# Altium schematic symbol library Sch_Lib.SchLib: 596 symbols (part 3 of 7)
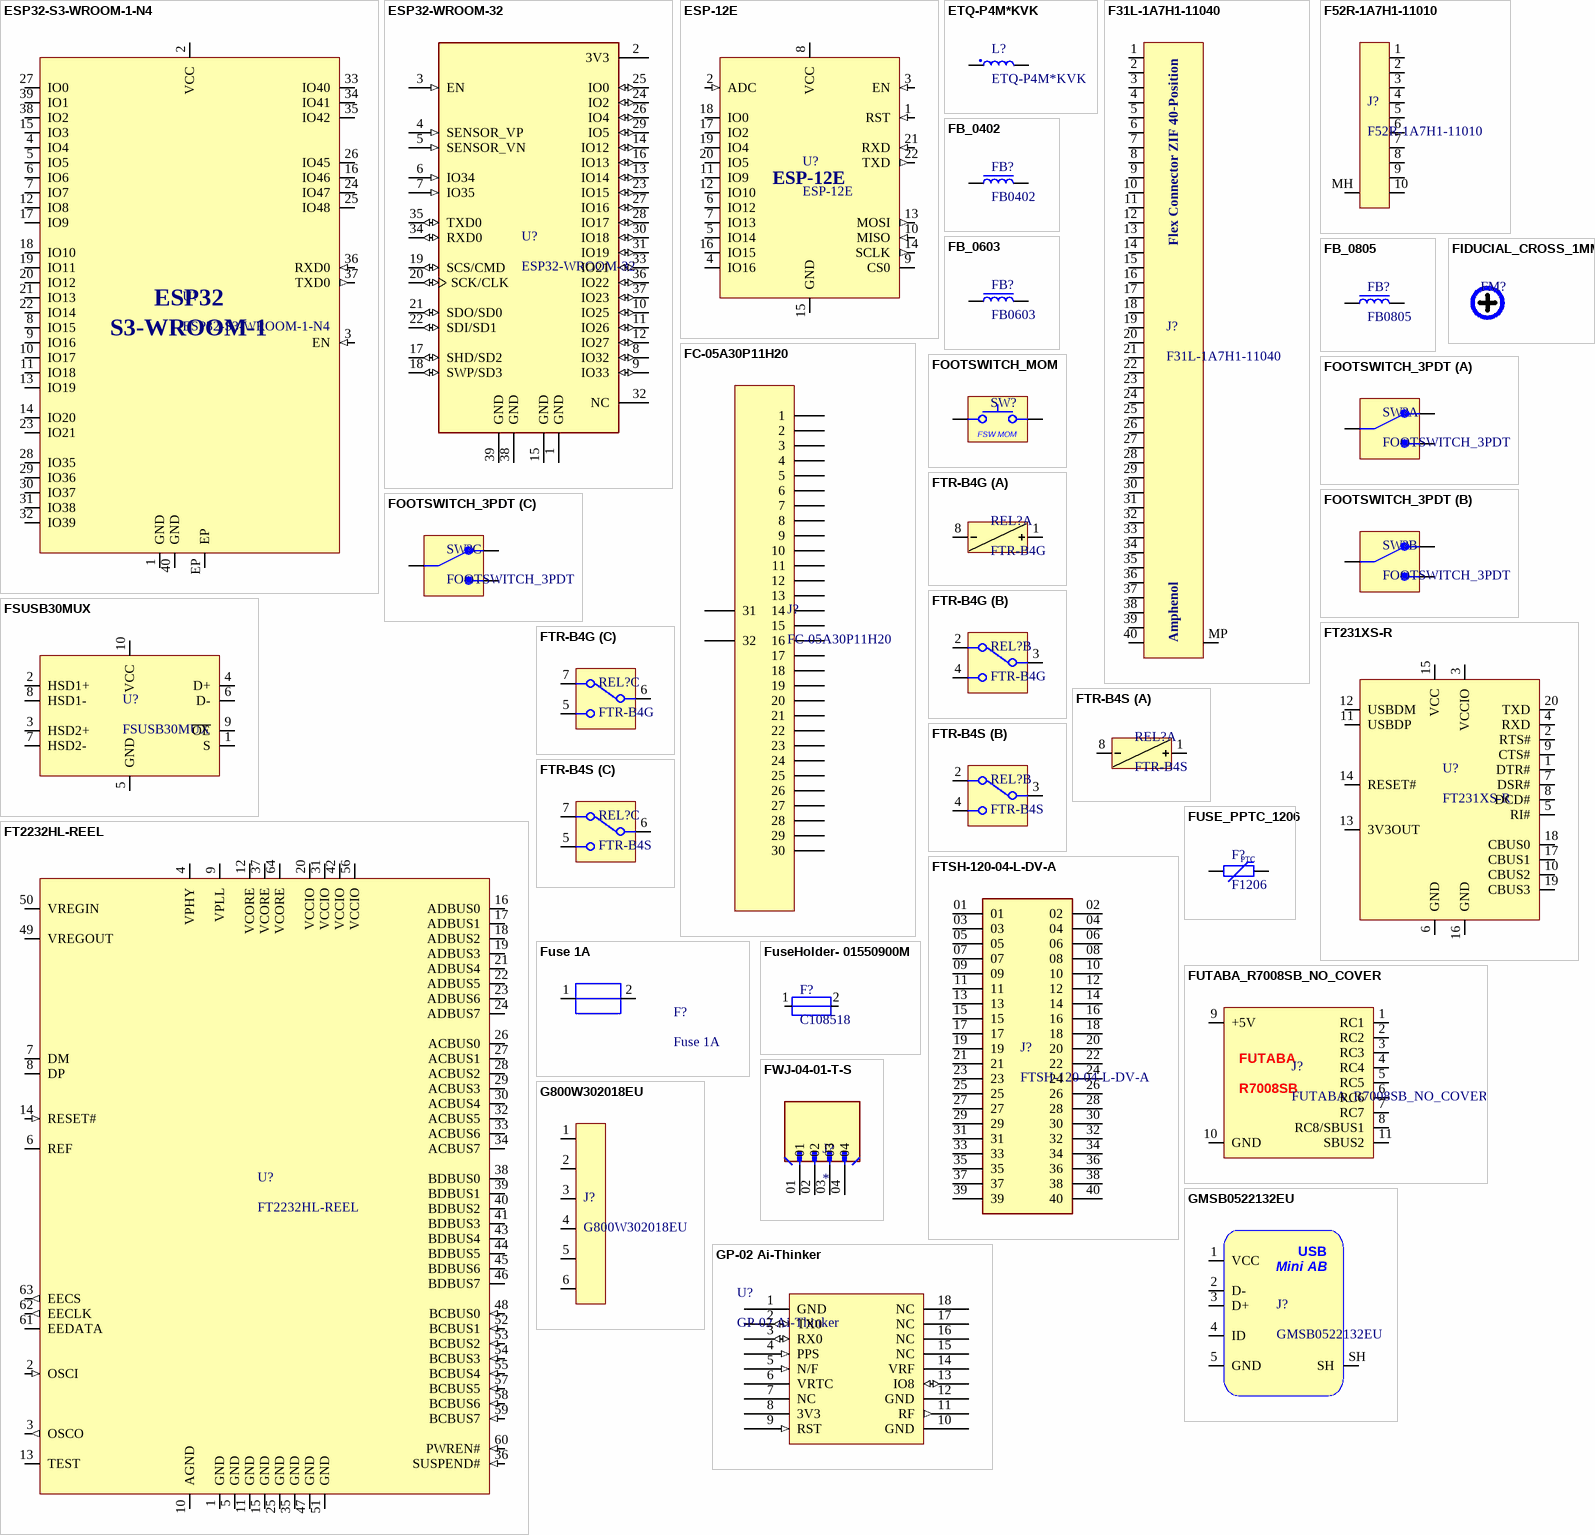
[diagram p39: symbols ESP32-S3-WROOM-1-N4 to GP-02 Ai-Thinker]

## ETQ-P4M*KVK
designator L?
Inductor Power SMD PCC-M0840M-LP Series; Manufacturer: Panasonic; Manufacturer Part Number: ETQ-P4M*KVK; Distributor Link: *; LCSC: *
footprint IND_1008
footprint ETQP4M-KVK
pins: 1, 2

## F31L-1A7H1-11040
designator J?
Flex Connector, 0.50mm Pitch, Height 2.55mm, Right angle, Flip type, ZIF, 40 position; Manufacturer: Amphenol; Manufacturer Part Number: F31L-1A7H1-11040; Distributor Link: https://www.mouser.de/ProductDetail/Amphenol-Aorora/F31L-1A7H1-11040?qs=xZ%2FP%252Ba9zWqYDodVHBk05qA%3D%3D
footprint F31L-1A7H1-11040
pins: 1, 2, 3, 4, 5, 6, 7, 8, 9, 10, 11, 12, 13, 14, 15, 16, 17, 18, 19, 20, 21, 22, 23, 24, 25, 26, 27, 28, 29, 30, 31, 32, 33, 34, 35, 36, 37, 38, 39, 40, MP
text: Flex Connector ZIF 40-Position

## F52R-1A7H1-11010
designator J?
FFC/FPC Connector 1.00mm Pitch Bottom Contact ZIF 10 Positions; Manufacturer: Amphenol; Manufacturer Part Number: F52R-1A7H1-11010
footprint F52R-1A7H1-11010
pins: 1, 2, 3, 4, 5, 6, 7, 8, 9, 10, MH

## FB_0402
designator FB?, comment FB0402
Ferrite Bead SMD 0402; Manufacturer: *; Manufacturer Part Number: *; Distributor Link: *; LCSC: *
footprint FB_0402
pins: 1, 2

## FB_0603
designator FB?, comment FB0603
Ferrite Bead SMD 0603; Manufacturer: *; Manufacturer Part Number: *; Distributor Link: *; LCSC: *
footprint FB_0603 (Ferrite Bead 0603)
pins: 1, 2

## FB_0805
designator FB?, comment FB0805
Ferrite Bead SMD 0805; Manufacturer: *; Manufacturer Part Number: *; Distributor Link: *; LCSC: *
footprint FB_0805
pins: 1, 2

## FC-05A30P11H20
designator J?
Flip type -25℃~+85℃ 30P Bottom Contact Surface Mount 0.5mm SMD,P=0.5mm,Surface Mount，Right Angle FFC, FPC (Flat Flexible) Connector Assemblies ROHS; Manufacturer: BXCONN; MPN: FC-05A30P11H20; LCSC NO: C23398852; ComponentLink1Description: LCSC Link; ComponentLink1URL: https://lcsc.com/product-detail/FFC-FPC-Flat-Flexible-Connector-Assemblies_BXCONN-FC-05A30P11H20_C23398852.html?s_z=n_30P%2520FFC
footprint FC-05A30P11H20 (30PIN FFC Connector)
pins: 1, 2, 3, 4, 5, 6, 7, 8, 9, 10, 11, 12, 13, 14, 15, 16, 17, 18, 19, 20, 21, 22, 23, 24, 25, 26, 27, 28, 29, 30, 31, 32

## FIDUCIAL_CROSS_1MM5
designator FM?, comment Fiducial Marker  (value not drawn)  (no BOM)
Fiducial Marker Cross 1.5mm NO BOM
footprint FIDUCIAL_CROSS_1MM5

## FOOTSWITCH_3PDT
designator SW?
Generic 3PDT Footswitch; Manufacturer: *; Manufacturer Part Number: *; Link: https://lovemyswitches.com/3pdt-latched-foot-switch-solder-lugs-black/
footprint FOOTSWITCH_3PDT
part A pins: COM1, NC1, NO1
part B pins: COM2, NC2, NO2
part C pins: COM3, NC3, NO3

## FOOTSWITCH_MOM
designator SW?  (value not drawn)
Header 2.54mm THT for Momentary SPST Footswitch
footprint SKRPANE010
footprint FOOTSWITCH_MOM
pins: 1, 2
text: FSW MOM

## FSUSB30MUX
designator U?
USB 2.0 High-Speed Switch MSOP-10; Manufacturer: ONSemi; Manufacturer Part Number: FSUSB30MUX
footprint MSOP-10
pins: 1 S, 2 HSD1+, 3 HSD2+, 4 D+, 5 GND, 6 D-, 7 HSD2-, 8 HSD1-, 9 ~{OE}, 10 VCC

## FT231XS-R
designator U?
USB Interface IC USB to Full Serial UART IC SSOP-20; Manufacturer: FTDI; Manufacturer Part Number: FT231XS-R
footprint SSOP20
pins: 1 DTR#, 2 RTS#, 3 VCCIO, 4 RXD, 5 RI#, 6 GND, 7 DSR#, 8 DCD#, 9 CTS#, 10 CBUS2, 11 USBDP, 12 USBDM, 13 3V3OUT, 14 RESET#, 15 VCC, 16 GND, 17 CBUS1, 18 CBUS0, 19 CBUS3, 20 TXD

## FT2232HL-REEL
designator U?
Hi-Speed Dual USB UART/FIFO IC; Manufacturer: FTDI; Manufacturer Part Number: FT2232HL-REEL; Distributor Link: https://www.mouser.de/ProductDetail/FTDI/FT2232HL-REEL?qs=D1%2FPMqvA100v7FHcEx164g%3D%3D; LCSC: C27882
footprint LQFP-64-0.5mm (TSQFP, 64-Leads, Body 10.00x10.00mm, Pitch 0.50mm, IPC Medium Density)
pins: 1 GND (power), 2 OSCI (in), 3 OSCO (out), 4 VPHY (power), 5 GND (power), 6 REF, 7 DM (io), 8 DP (io), 9 VPLL (power), 10 AGND (power), 11 GND (power), 12 VCORE (power), 13 TEST, 14 RESET# (in), 15 GND (power), 16 ADBUS0 (io), 17 ADBUS1 (io), 18 ADBUS2 (io), 19 ADBUS3 (io), 20 VCCIO (power), 21 ADBUS4 (io), 22 ADBUS5 (io), 23 ADBUS6 (io), 24 ADBUS7 (io), 25 GND (power), 26 ACBUS0 (io), 27 ACBUS1 (io), 28 ACBUS2 (io), 29 ACBUS3 (io), 30 ACBUS4 (io), 31 VCCIO (power), 32 ACBUS5 (io), 33 ACBUS6 (io), 34 ACBUS7 (io), 35 GND (power), 36 SUSPEND# (in), 37 VCORE (power), 38 BDBUS0 (io), 39 BDBUS1 (io), 40 BDBUS2 (io), 41 BDBUS3 (io), 42 VCCIO (power), 43 BDBUS4 (io), 44 BDBUS5 (io), 45 BDBUS6 (io), 46 BDBUS7 (io), 47 GND (power), 48 BCBUS0 (in), 49 VREGOUT (power), 50 VREGIN (power), 51 GND (power), 52 BCBUS1 (in), 53 BCBUS2 (in), 54 BCBUS3 (in), 55 BCBUS4 (in), 56 VCCIO (power), 57 BCBUS5 (in), 58 BCBUS6 (in), 59 BCBUS7 (in), 60 PWREN# (in), 61 EEDATA (io), 62 EECLK (out), 63 EECS (out), 64 VCORE (power)

## FTR-B4G
designator REL?
Ultra-Miniature Relay DPDT SMT; Manufacturer: Fujitsu; Manufacturer Part Number: FTR-B4G
footprint FTR-B4G
part A pins: 1 VCC, 8 VSS
part B pins: 2 NC1, 3 COM1, 4 NO1
part C pins: 5 NO2, 6 COM2, 7 NC2

## FTR-B4S
designator REL?
Ultra-Miniature Relay DPDT Space-Saving; Manufacturer: Fujitsu; Manufacturer Part Number: FTR-B4S
footprint FTR-B4S
part A pins: 1 VCC, 8 VSS
part B pins: 2 NC1, 3 COM1, 4 NO1
part C pins: 5 NO2, 6 COM2, 7 NC2

## FTSH-120-04-L-DV-A
designator J?
MF: Samtec; MP: FTSH-120-04-L-DV-A; Value: *; Package: None; Price: None; Availability: Unavailable
footprint SAMTEC_FTSH-120-04-L-DV-A
pins: 01, 02, 03, 04, 05, 06, 07, 08, 09, 10, 11, 12, 13, 14, 15, 16, 17, 18, 19, 20, 21, 22, 23, 24, 25, 26, 27, 28, 29, 30, 31, 32, 33, 34, 35, 36, 37, 38, 39, 40

## Fuse 1A
designator F?
TA2VT1 SMD Fuse 1A 250V
footprint Fuse 1A (TA2VT1_C3014117)
pins: 1, 2

## FUSE_PPTC_1206
designator F?, comment F1206
Fuse PPTC SMD 1206; Manufacturer: *; Manufacturer Part Number: *
footprint FUSE_1206
pins: 1, 2
text: PTC

## FuseHolder- 01550900M
designator F?, comment C108518
SMD,5.0x9.7mm Fuseholders ROHS
footprint 01550900M
pins: 1, 2

## FUTABA_R7008SB_NO_COVER
designator J?  (no BOM)
Futaba R7008SB Solder Pads
footprint FUTABA_R7008SB_NO_COVER
pins: 1 RC1, 2 RC2, 3 RC3, 4 RC4, 5 RC5, 6 RC6, 7 RC7, 8 RC8/SBUS1, 9 +5V, 10 GND, 11 SBUS2
text: FUTABA; R7008SB

## FWJ-04-01-T-S
designator J?
Connector Header Through Hole 4 position 0.156 (3.96mm); MF: Samtec; MP: FWJ-04-01-T-S; SnapEDA_Link: https://www.snapeda.com/parts/FWJ-04-01-T-S/Samtec/view-part/?ref=snap; Package: None; Value: *; Check_prices: https://www.snapeda.com/parts/FWJ-04-01-T-S/Samtec/view-part/?ref=eda
footprint SAMTEC_FWJ-04-01-T-S
pins: 01, 02, 03, 04

## G800W302018EU
designator J?
Pin Header 6 Position 2.54mm Pitch; Manufacturer: Amphenol; Manufacturer Part Number: G800W302018EU
footprint G800W302018EU
pins: 1, 2, 3, 4, 5, 6

## GMSB0522132EU
designator J?
USB 2.0 Mini AB Receptacle Right Angle Through-Hole; Manufacturer: Amphenol; Manufacturer Part Number: GMSB0522132EU
footprint GMSB0522132EU
pins: 1 VCC (power), 2 D- (io), 3 D+ (io), 4 ID, 5 GND (power), SH (power)
text: USB; Mini AB

## GP-02 Ai-Thinker
designator U?
Ai-Thinker Gps Module GP-02
footprint GP-02 Ai-Thinker
pins: 1 GND (power), 2 TX0 (io), 3 RX0 (io), 4 PPS (in), 5 N/F (in), 6 VRTC (power), 7 NC, 8 3V3 (power), 9 RST (in), 10 GND (power), 11 RF (out), 12 GND (power), 13 IO8 (io), 14 VRF (power), 15 NC, 16 NC, 17 NC, 18 NC

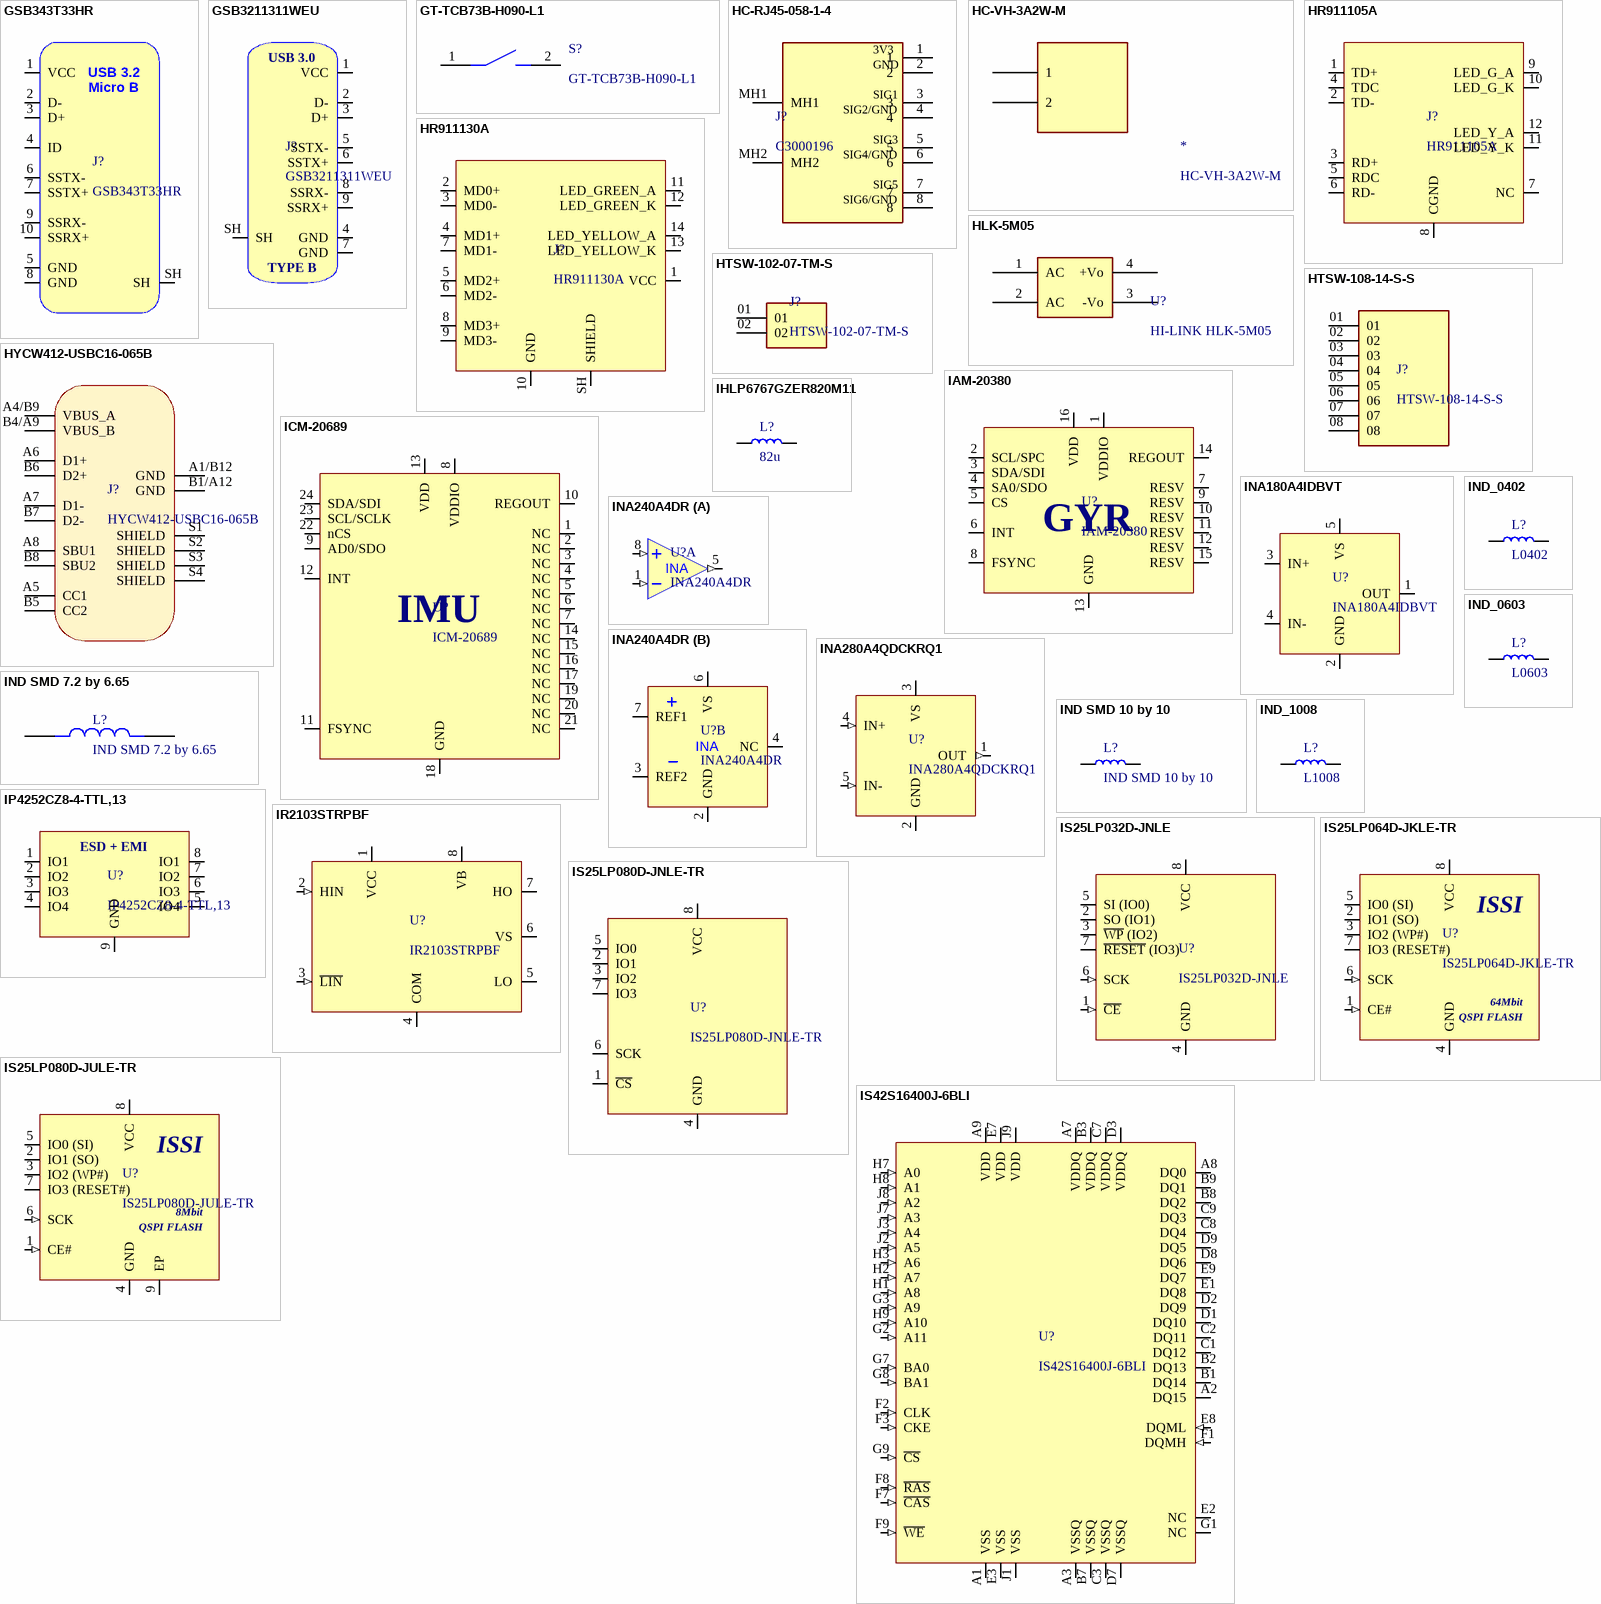
[diagram p13: symbols GSB343T33HR to IS42S16400J-6BLI]

## GSB343T33HR
designator J?
Micro USB 3.2, Type B, Receptacle, Right Angle SMT, High Rise, 5.25mm Height, 10 Pins, Shell with Nickel Plating, 30μin Gold, Black Housing; Manufacturer: Amphenol; Manufacturer Part Number: GSB343T33HR; Distributor Link: https://www.mouser.de/ProductDetail/Amphenol-Commercial-Products/GSB343T33HR?qs=8nwx9VzGl4wjI7K6xpTSyQ%3D%3D; LCSC: C5428255
footprint GSB343T33HR
pins: 1 VCC (power), 2 D- (power), 3 D+ (power), 4 ID, 5 GND (power), 6 SSTX- (io), 7 SSTX+ (io), 8 GND (power), 9 SSRX- (io), 10 SSRX+ (io), SH
text: USB 3.2; Micro B

## GSB3211311WEU
designator J?
USB Connector Type B 3.0 Through-Hole; Manufacturer: Amphenol; Manufacturer Part Number: GSB3211311WEU
footprint GSB3211311WEU
pins: 1 VCC, 2 D-, 3 D+, 4 GND, 5 SSTX-, 6 SSTX+, 7 GND, 8 SSRX-, 9 SSRX+, SH
text: USB 3.0; TYPE B

## GT-TCB73B-H090-L1
designator S?
None Without bracket 50mA 4.5mm 100000 Times 12V 250gf 4.5mm 9mm Round Button Bend-in SPST Plugin Tactile Switches ROHS
footprint GT-TCB73B-H090-L1 (None Without bracket 50mA 4.5mm 100000 Times 12V 250gf 4.5mm 9mm Round Button Bend-in SPST Plugin Tactile Switches ROHS)
pins: 1, 2

## HC-RJ45-058-1-4
designator J?, comment C3000196
RJ45Receptacle Shielded 1 Bend-in Tin Brass Without LED Plugin Ethernet Connectors / Modular Connectors (RJ45 RJ11) ROHS
footprint HC-RJ45-058-1-4 (RJ45Receptacle Shielded 1 Bend-in Tin Brass Without LED Plugin Ethernet Connectors / Modular Connectors (RJ45 RJ11) ROHS)
pins: 1, 2, 3, 4, 5, 6, 7, 8, MH1, MH2
text: 3V3; GND; SIG1; SIG2/GND; SIG3; SIG4/GND; SIG5; SIG6/GND

## HC-VH-3A2W-M
designator *
ComponentLink1Description: Lcsc link; ComponentLink1URL: https://www.lcsc.com/product-detail/Wire-To-Board-Connector_HCTL-HC-VH-3A2W-M_C5196913.html
footprint HC-VH-3A2W-M (1x3P (Missing 1P) 2P (3P Missing 1P) VH 1 Tin 7.92mm 3 -25?~+85? 7A Brass Bend-in Push-Pull,P=3.96mm Wire To Board Connector ROHS)
pins: 1, 2

## HLK-5M05
designator U?, comment HI-LINK HLK-5M05
Plugin AC-DC Power Modules ROHS
footprint HLK-5M05 (Plugin AC-DC Power Modules ROHS)
pins: 1 AC, 2 AC, 3 -Vo, 4 +Vo

## HR911105A
designator J?
Single Port RJ45 Connector w/ Integrated Magnetic and LED 10/100 Base-T; Manufacturer: HanRun; Manufacturer Part Number: HR911105A
footprint HR911105A
pins: 1 TD+, 2 TD-, 3 RD+, 4 TDC, 5 RDC, 6 RD-, 7 NC, 8 CGND, 9 LED_G_A, 10 LED_G_K, 11 LED_Y_K, 12 LED_Y_A

## HR911130A
designator J?
100/1000Base-T Magnetics Single-Port RJ45 Connector with Integrated Magnetics and LEDs; Manufacturer: Hanrun; Manufacturer Part Number: HR911130A
footprint HR911130A
pins: 1 VCC, 2 MD0+, 3 MD0-, 4 MD1+, 5 MD2+, 6 MD2-, 7 MD1-, 8 MD3+, 9 MD3-, 10 GND, 11 LED_GREEN_A, 12 LED_GREEN_K, 13 LED_YELLOW_K, 14 LED_YELLOW_A, SH SHIELD

## HTSW-102-07-TM-S
designator J?
HEADER, 2 CONTACTS, 1 ROW, THROUGH HOLE, 2.54 MM; Connector Systems:Board-to-Board; Pitch Spacing:2.54mm; No. of Rows:1Rows; No. of Contacts:2Contacts; Contact Termination Type:Through Hole; Product Range:HTSW Series; Gender:Header RoHS Compliant: Yes; MP: HTSW10207TMS; MF: Samtec; SnapEDA_Link: https://www.snapeda.com/parts/HTSW10207TMS/Samtec/view-part/?ref=snap; Value: *; Purchase-URL: https://pricing.snapeda.com/search/part/HTSW10207TMS/?ref=eda; Availability: In Stock; Check_prices: https://www.snapeda.com/parts/HTSW10207TMS/Samtec/view-part/?ref=eda; Package: None; Price: None
footprint SAMTEC_HTSW-102-07-TM-S
pins: 01, 02

## HTSW-108-14-S-S
designator J?
Value: *; Availability: Unavailable; Price: None; Package: None; MP: HTSW-108-14-S-S
footprint SAMTEC_HTSW-108-14-S-S
pins: 01, 02, 03, 04, 05, 06, 07, 08

## HYCW412-USBC16-065B
designator J?
16P Female Type-C SMD USB Connectors ROHS; Manufacturer: HOAUC; MPN: HYCW412-USBC16-065B; LCSC NO: C5342196; ComponentLink1Description: LCSC; ComponentLink1URL: https://lcsc.com/product-detail/USB-Connectors_HOAUC-HYCW412-USBC16-065B_C5342196.html?s_z=n_usb-c-16
footprint USB-C-16 (16P Female Type-C SMD USB Connectors ROHS)
pins: A1/B12 GND, A4/B9 VBUS_A, A5 CC1, A6 D1+, A7 D1-, A8 SBU1, B1/A12 GND, B4/A9 VBUS_B, B5 CC2, B6 D2+, B7 D2-, B8 SBU2, S1 SHIELD, S2 SHIELD, S3 SHIELD, S4 SHIELD

## IAM-20380
designator U?
High Performance MEMS Gyroscope 3-Axis I2C/SPI; Manufacturer: TDK InvenSense; Manufacturer Part Number: IAM-20380
footprint QFN50P300X300X80_HS-17N (QFN, 16-Leads, Body 3.00x3.00mm, Pitch 0.50mm, Thermal Pad 1.00x1.00mm, IPC Medium Density)
pins: 1 VDDIO, 2 SCL/SPC, 3 SDA/SDI, 4 SA0/SDO, 5 CS, 6 INT, 7 RESV, 8 FSYNC, 9 RESV, 10 RESV, 11 RESV, 12 RESV, 13 GND, 14 REGOUT, 15 RESV, 16 VDD
text: GYR

## ICM-20689
designator U?
High Performance 6-Axis MEMS IMU; Manufacturer: TDK InvenSense; Manufacturer Part Number: ICM-20689
footprint QFN50P400X400X95_HS-25N (QFN, 24-Leads, Body 4.00x4.00mm, Pitch 0.50mm, Thermal Pad 2.60x2.70mm, IPC Medium Density)
pins: 1 NC, 2 NC, 3 NC, 4 NC, 5 NC, 6 NC, 7 NC, 8 VDDIO, 9 AD0/SDO, 10 REGOUT, 11 FSYNC, 12 INT, 13 VDD, 14 NC, 15 NC, 16 NC, 17 NC, 18 GND, 19 NC, 20 NC, 21 NC, 22 nCS, 23 SCL/SCLK, 24 SDA/SDI
text: IMU

## IHLP6767GZER820M11
designator L?, comment 82u
Inductor SMD Vishay IHLP6767GZER820M11; Manufacturer: Vishay; Manufacturer Part Number: IHLP6767GZER820M11
footprint IHLP6767GZER820M11
pins: 1, 2

## INA180A4IDBVT
designator U?
Current Sense Amplifier 200V/V Gain 105kHz BW SOT-23-5; Manufacturer: Texas Instruments; Manufacturer Part Number: INA180A4IDBVT
footprint SOT-23-5 (SOT23, 5-Leads, Body 2,90x2,80mm, Pitch 0,95mm, IPC Medium Density)
pins: 1 OUT, 2 GND, 3 IN+, 4 IN-, 5 VS

## INA240A4DR
designator U?
INA240 –4-V to 80-V, Bidirectional, Ultra-Precise Current Sense Amplifier With / Enhanced PWM Rejection, Gain=200V/V; Manufacturer: Texas Instruments; Manufacturer Part Number: INA240A4DR
footprint SOIC-8 (SOIC, 8-Leads, Body 4.91x3.90mm, Pitch 1.27mm, IPC Medium Density)
part A pins: 1 IN- (in), 5 OUT (out), 8 IN+ (in)
part B pins: 2 GND, 3 REF2, 4 NC, 6 VS, 7 REF1
part A text: INA
part B text: INA

## INA280A4QDCKRQ1
designator U?
2.7-V to 120-V, 1.1-MHz, High Precision Current Sense Amplifier Gain 200V/V SC-70-5; Manufacturer: Texas Instruments; Manufacturer Part Number: INA280A4QDCKRQ1
footprint SC-70-5
pins: 1 OUT (out), 2 GND (power), 3 VS (power), 4 IN+ (in), 5 IN- (in)

## IND SMD 7.2 by 6.65
designator L?
10.0UH, 7.0A, 3.0A, IRON CORE, Â±20%, SHIELDED, 102.0M?, 7.2 X 6.65 X 3.0MM, SURFACE MOUNT; MP: ASPI-0630HI-100M-T15; MF: Abracon LLC; Check_prices: https://www.snapeda.com/parts/ASPI-0630HI-100M-T15/Abracon+LLC/view-part/?ref=eda; Availability: In Stock; Package: Nonstandard Abracon; Purchase-URL: https://pricing.snapeda.com/search/part/ASPI-0630HI-100M-T15/?ref=eda; Value: *; SnapEDA_Link: https://www.snapeda.com/parts/ASPI-0630HI-100M-T15/Abracon+LLC/view-part/?ref=snap; Price: None
footprint IND_ASPI-0630HI-100M-T15
pins: 1, 2

## IND SMD 10 by 10
designator L?
Power Inductor SMD ASPI-4030S Series; Manufacturer: ABRACON; Manufacturer Part Number: ASPI-4030S*; Distirbutor Link: *
footprint ASPI-4030S
pins: 1, 2

## IND_0402
designator L?, comment L0402
Inductor SMD 0402
footprint IND_0402
pins: 1, 2

## IND_0603
designator L?, comment L0603
Inductor SMD 0603
footprint IND_0603
pins: 1, 2

## IND_1008
designator L?, comment L1008
Inductor SMD 1008
footprint IND_1008
pins: 1, 2

## IP4252CZ8-4-TTL,13
designator U?
Integrated 4 passive filter network / with ESD protection C=12pF Vwork=5.6V
footprint SON40P140X55_HS-9N (SON, 8-Leads, Body 1,70x1,35mm, Pitch 0,40mm, Thermal Pad 1,20x0,24mm, IPC Medium Density)
pins: 1 IO1, 2 IO2, 3 IO3, 4 IO4, 5 IO4, 6 IO3, 7 IO2, 8 IO1, 9 GND
text: ESD + EMI

## IR2103STRPBF
designator U?
Half-Bridge Driver SOIC-8; Manufacturer: Infineon Technologies; Manufacturer Part Number: IR2103STRPBF
footprint SOIC-8 (SOIC, 8-Leads, Body 4.91x3.90mm, Pitch 1.27mm, IPC Medium Density)
pins: 1 VCC (power), 2 HIN (in), 3 ~{LIN} (in), 4 COM (power), 5 LO (power), 6 VS (power), 7 HO (power), 8 VB (power)

## IS25LP032D-JNLE
designator U?
32Mb SERIAL FLASH MEMORY WITH 133MHZ MULTI I/O SPI & / QUAD I/O QPI DTR INTERFACE SOIC-8; Manufacturer: ISSI; Manufacturer Part Number: IS25LP032D-JNLE
footprint SOIC-8 (SOIC, 8-Leads, Body 4.91x3.90mm, Pitch 1.27mm, IPC Medium Density)
pins: 1 ~{CE} (in), 2 SO (IO1) (io), 3 ~{WP} (IO2) (io), 4 GND (power), 5 SI (IO0) (io), 6 SCK (in), 7 ~{RESET} (IO3) (io), 8 VCC (power)

## IS25LP064D-JKLE-TR
designator U?
64Mb SERIAL FLASH MEMORY WITH 166MHZ MULTI I/O SPI & QUAD I/O QPI DTR INTERFACE WSON-8 (6x5mm); Manufacturer: ISSI; Manufacturer Part Number: IS25LP064D-JKLE-TR
footprint WSON-8-6x5mm
pins: 1 CE# (in), 2 IO1 (SO) (io), 3 IO2 (WP#) (io), 4 GND (power), 5 IO0 (SI) (io), 6 SCK (in), 7 IO3 (RESET#) (io), 8 VCC
text: 64Mbit; QSPI FLASH

## IS25LP080D-JNLE-TR
designator U?
QSPI NOR Flash Memory 8 Mbit SOIC-8; Manufacturer: ISSI; Manufacturer Part Number: IS25LP080D-JNLE-TR
footprint SOIC-8 (SOIC, 8-Leads, Body 4.91x3.90mm, Pitch 1.27mm, IPC Medium Density)
pins: 1 ~{CS}, 2 IO1, 3 IO2, 4 GND (power), 5 IO0, 6 SCK, 7 IO3, 8 VCC (power)

## IS25LP080D-JULE-TR
designator U?
8Mb SERIAL FLASH MEMORY WITH 133MHZ MULTI I/O SPI & QUAD I/O QPI DTR INTERFACE WSON-8 (6x5mm); Manufacturer: ISSI; Manufacturer Part Number: IS25LP080D-JULE-TR
footprint USON-8-2X3MM
pins: 1 CE# (in), 2 IO1 (SO) (io), 3 IO2 (WP#) (io), 4 GND (power), 5 IO0 (SI) (io), 6 SCK (in), 7 IO3 (RESET#) (io), 8 VCC, 9 EP (power)
text: 8Mbit; QSPI FLASH

## IS42S16400J-6BLI
designator U?
SDRAM 64Mbit 8Mx16 166Mhz 3.3V 54-ball BGA; Manufacturer: ISSI; Manufacturer Part Number: IS42S16400J-6BLI; Distributor Link: https://www.mouser.de/ProductDetail/ISSI/IS42S16400J-6BLI?qs=Fza4peKjXe%2F8S88YWH645Q%3D%3D
footprint BGA54C80P9X9_800X800X120 (BGA, 54-Leads, Body 8.00x8.00mmx1.20mm, Pitch 0.80mm)
pins: A1 VSS (power), A2 DQ15 (io), A3 VSSQ (power), A7 VDDQ (power), A8 DQ0 (io), A9 VDD (power), B1 DQ14 (io), B2 DQ13 (io), B3 VDDQ (power), B7 VSSQ (power), B8 DQ2 (io), B9 DQ1 (io), C1 DQ12 (io), C2 DQ11 (io), C3 VSSQ (power), C7 VDDQ (power), C8 DQ4 (io), C9 DQ3 (io), D1 DQ10 (io), D2 DQ9 (io), D3 VDDQ (power), D7 VSSQ (power), D8 DQ6 (io), D9 DQ5 (io), E1 DQ8 (io), E2 NC, E3 VSS (power), E7 VDD (power), E8 DQML (in), E9 DQ7 (io), F1 DQMH (in), F2 CLK (in), F3 CKE (in), F7 ~{CAS} (in), F8 ~{RAS} (in), F9 ~{WE} (in), G1 NC, G2 A11 (in), G3 A9 (in), G7 BA0 (in), G8 BA1 (in), G9 ~{CS} (in), H1 A8 (in), H2 A7 (in), H3 A6 (in), H7 A0 (in), H8 A1 (in), H9 A10 (in), J1 VSS (power), J2 A5 (in), J3 A4 (in), J7 A3 (in), J8 A2 (in), J9 VDD (power)

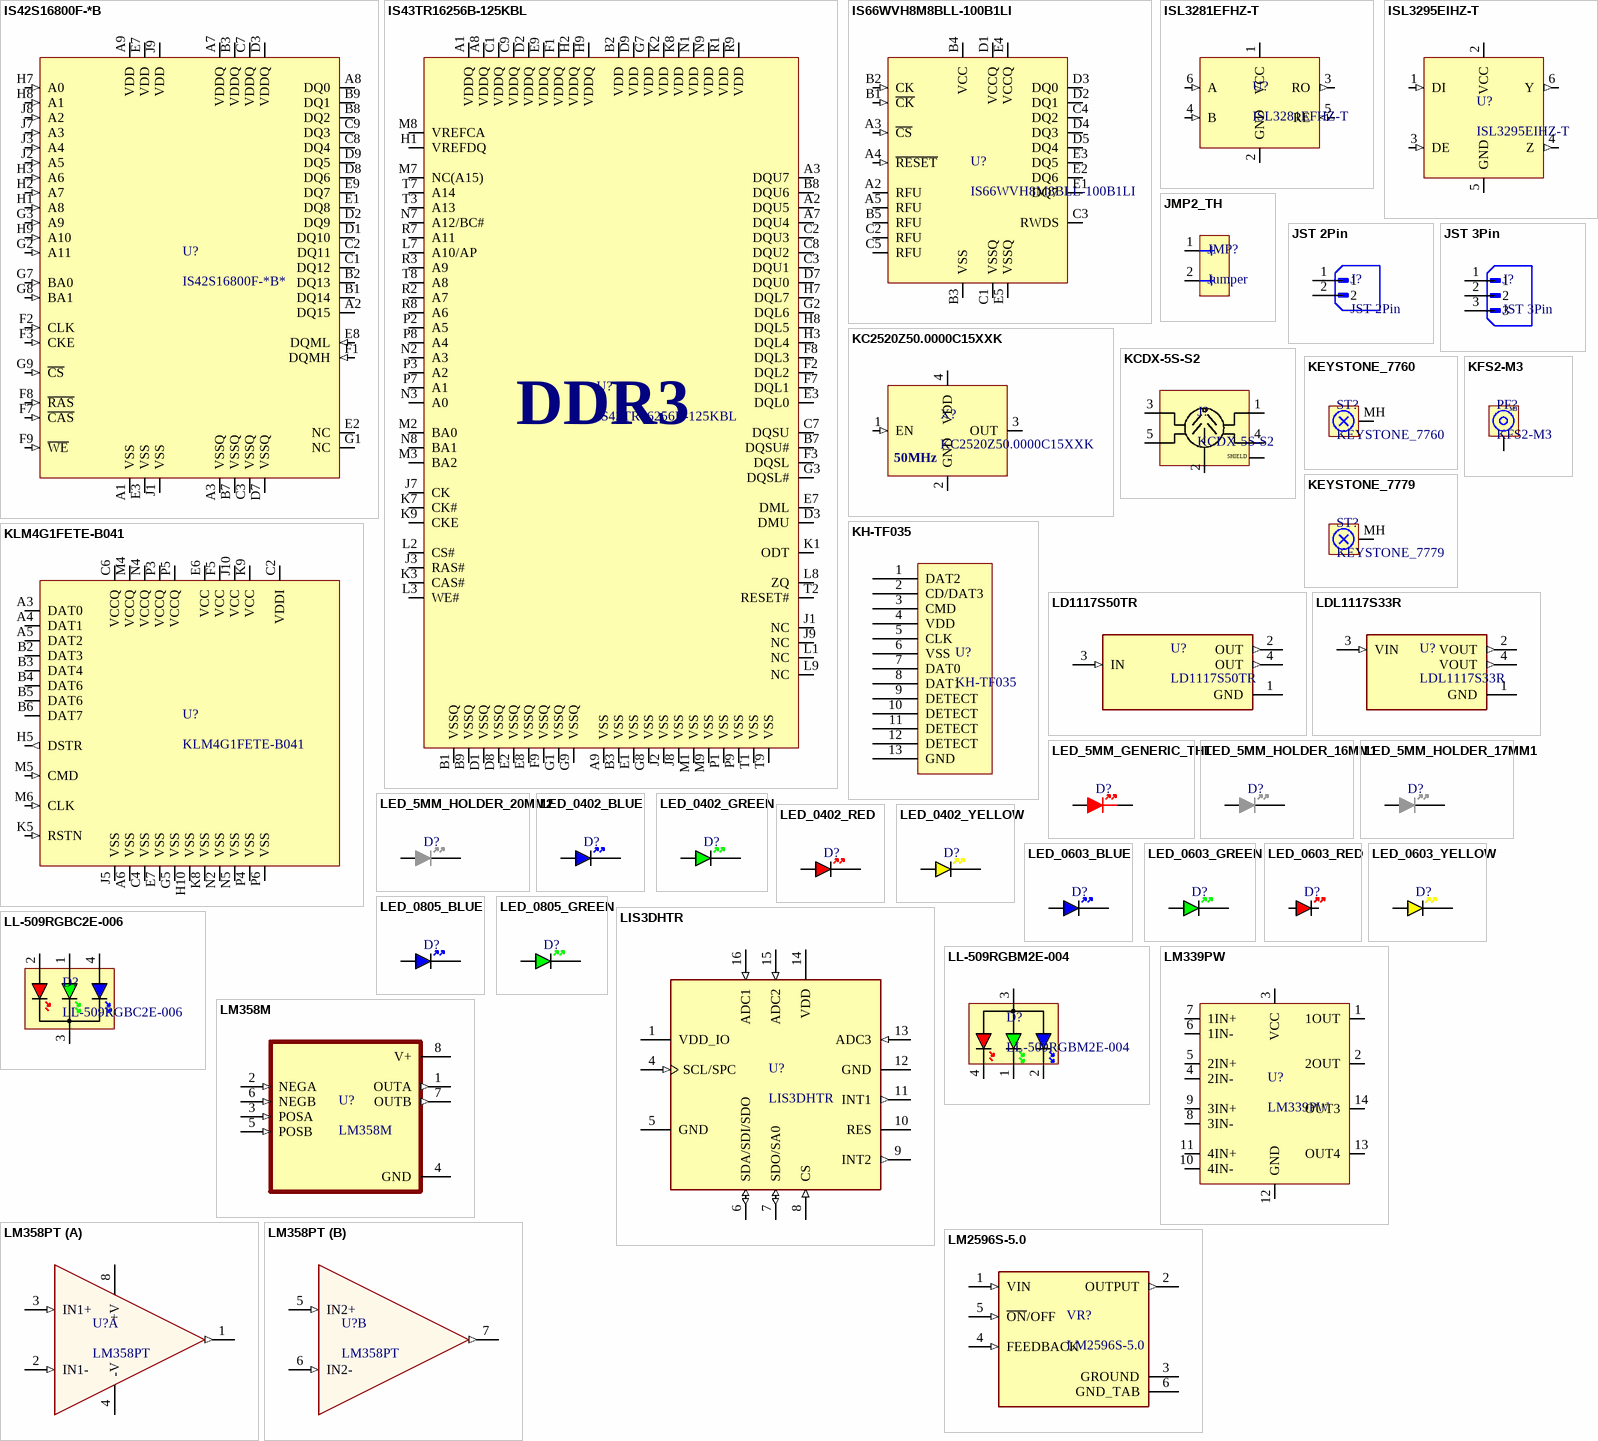
[diagram p14: symbols IS42S16800F-*B to LM2596S-5.0]

## IS42S16800F-*B
designator U?, comment IS42S16800F-*B*
SDRAM 128Mbit 8Mx16 143Mhz 3.3V 54-ball BGA; Manufacturer: ISSI; Manufacturer Part Number: IS42S16800F-*B*
footprint BGA54C80P9X9_800X800X120 (BGA, 54-Leads, Body 8.00x8.00mmx1.20mm, Pitch 0.80mm)
pins: A1 VSS (power), A2 DQ15 (io), A3 VSSQ (power), A7 VDDQ (power), A8 DQ0 (io), A9 VDD (power), B1 DQ14 (io), B2 DQ13 (io), B3 VDDQ (power), B7 VSSQ (power), B8 DQ2 (io), B9 DQ1 (io), C1 DQ12 (io), C2 DQ11 (io), C3 VSSQ (power), C7 VDDQ (power), C8 DQ4 (io), C9 DQ3 (io), D1 DQ10 (io), D2 DQ9 (io), D3 VDDQ (power), D7 VSSQ (power), D8 DQ6 (io), D9 DQ5 (io), E1 DQ8 (io), E2 NC, E3 VSS (power), E7 VDD (power), E8 DQML (in), E9 DQ7 (io), F1 DQMH (in), F2 CLK (in), F3 CKE (in), F7 ~{CAS} (in), F8 ~{RAS} (in), F9 ~{WE} (in), G1 NC, G2 A11 (in), G3 A9 (in), G7 BA0 (in), G8 BA1 (in), G9 ~{CS} (in), H1 A8 (in), H2 A7 (in), H3 A6 (in), H7 A0 (in), H8 A1 (in), H9 A10 (in), J1 VSS (power), J2 A5 (in), J3 A4 (in), J7 A3 (in), J8 A2 (in), J9 VDD (power)

## IS43TR16256B-125KBL
designator U?
DRAM 4GBit, 1.5V, DDR3, 256Mx16, 1600MT/s @ 11-11-11, 96 ball BGA (9mm x13mm) RoHS; Manufacturer: ISSI; Manufacturer Part Number: IS43TR16256B-125KBL
footprint BGA96C80P9X16_900X1300X120 (BGA, 96-Leads, Body 9.00x13.00mmx1.20mm, Pitch 0.80mm)
pins: A1 VDDQ, A2 DQU5, A3 DQU7, A7 DQU4, A8 VDDQ, A9 VSS, B1 VSSQ, B2 VDD, B3 VSS, B7 DQSU#, B8 DQU6, B9 VSSQ, C1 VDDQ, C2 DQU3, C3 DQU1, C7 DQSU, C8 DQU2, C9 VDDQ, D1 VSSQ, D2 VDDQ, D3 DMU, D7 DQU0, D8 VSSQ, D9 VDD, E1 VSS, E2 VSSQ, E3 DQL0, E7 DML, E8 VSSQ, E9 VDDQ, F1 VDDQ, F2 DQL2, F3 DQSL, F7 DQL1, F8 DQL3, F9 VSSQ, G1 VSSQ, G2 DQL6, G3 DQSL#, G7 VDD, G8 VSS, G9 VSSQ, H1 VREFDQ, H2 VDDQ, H3 DQL4, H7 DQL7, H8 DQL5, H9 VDDQ, J1 NC, J2 VSS, J3 RAS#, J7 CK, J8 VSS, J9 NC, K1 ODT, K2 VDD, K3 CAS#, K7 CK#, K8 VDD, K9 CKE, L1 NC, L2 CS#, L3 WE#, L7 A10/AP, L8 ZQ, L9 NC, M1 VSS, M2 BA0, M3 BA2, M7 NC(A15), M8 VREFCA, M9 VSS, N1 VDD, N2 A3, N3 A0, N7 A12/BC#, N8 BA1, N9 VDD, P1 VSS, P2 A5, P3 A2, P7 A1, P8 A4, P9 VSS, R1 VDD, R2 A7, R3 A9, R7 A11, R8 A6, R9 VDD, T1 VSS, T2 RESET#, T3 A13, T7 A14, T8 A8, T9 VSS
text: DDR3

## IS66WVH8M8BLL-100B1LI
designator U?
64Mbit (8Mx8) HyperRAM 100MHz; Manufacturer: ISSI; Manufacturer Part Number: IS66WVH8M8BLL-100B1LI; Distributor Link: https://www.mouser.de/ProductDetail/ISSI/IS66WVH8M8BLL-100B1LI?qs=K1oHB112QgngRH5bU%252BIWKA%3D%3D
footprint TFBGA-24-6X8X1MM2
pins: A2 RFU, A3 ~{CS} (in), A4 ~{RESET} (in), A5 RFU, B1 ~{CK} (in), B2 CK (in), B3 VSS (power), B4 VCC (power), B5 RFU, C1 VSSQ (power), C2 RFU, C3 RWDS (io), C4 DQ2 (io), C5 RFU, D1 VCCQ (power), D2 DQ1 (io), D3 DQ0 (io), D4 DQ3 (io), D5 DQ4 (io), E1 DQ7 (io), E2 DQ6 (io), E3 DQ5 (io), E4 VCCQ (power), E5 VSSQ (power)

## ISL3281EFHZ-T
designator U?
RS-485/RS-422 Single Receiver 3.0V to 5.5V ESD Protected; Manufacturer: Renesas Electronics; Manufacturer Part Number: ISL3281EFHZ-T
footprint SOT-23-6
pins: 1 VCC (power), 2 GND (power), 3 RO (out), 4 B (in), 5 RE (in), 6 A (in)

## ISL3295EIHZ-T
designator U?
RS-485/RS-422 Transmitter, ±16.5kV ESD Protected, +125°C, 3.0V to 5.5V, SOT-23-6, Low Power; Manufacturer: Renesas; Manufacturer Part Number: ISL3295EIHZ-T
footprint SOT-23-6
pins: 1 DI (in), 2 VCC (power), 3 DE (in), 4 Z (out), 5 GND (power), 6 Y (out)

## JMP2_TH
designator JMP?, comment Jumper
Jumper 2 Pins Through-Hole DO NOT PLACE
footprint JMP2_TH
pins: 1, 2

## JST 2Pin
designator J?
MF: {'manufacturer': u'JST Sales America Inc.'}; MP: B2B-XH-A; Package: None; Price: None; Value: *; Availability: Unavailable
footprint JST_B2B-XH-A - duplicate
pins: 1, 2

## JST 3Pin
designator J?
Connector Header Through Hole 3 position 0.098 (2.50mm); MF: JST Sales; MP: B3B-XH-A(LF)(SN); SnapEDA_Link: https://www.snapeda.com/parts/B3B-XH-A(LF)(SN)/JST+Sales+America+Inc./view-part/?ref=snap; Package: None; Value: *; Check_prices: https://www.snapeda.com/parts/B3B-XH-A(LF)(SN)/JST+Sales+America+Inc./view-part/?ref=eda
footprint JST_B3B-XH-A(LF)(SN)
pins: 1, 2, 3

## KC2520Z50.0000C15XXK
designator X?
Standard Clock Oscillators 50 MHz 30 PPM 15 pF 1.71 V to 3.63 V 2.5mm x 2.0mm; Manufacturer: Kyocera; Manufacturer Part Number: KC2520Z50.0000C15XXK
footprint SSOP5
footprint XTAL_2520
pins: 1 EN (in), 2 GND (power), 3 OUT, 4 VDD (power)
text: 50MHz

## KCDX-5S-S2
designator J?
Circular DIN Receptacle 5-Position Shielded Through-Hole Right-Angle; Manufacturer: Kycon; Manufacturer Part Number: KCDX-5S-S2; Distributor Link: https://www.mouser.de/ProductDetail/Kycon/KCDX-5S-S2?qs=Hyo%2FOIDW0pNotQHJom5wpw%3D%3D
footprint KCDX-5S-S2
pins: 1, 2, 3, 4, 5, SH
text: SHIELD

## KEYSTONE_7760
designator ST?
PC Screw Terminal Snap-In M3 (No screw supplied); Manufacturer: Keystone Electronics; Manufacturer Part Number: 7760
footprint KEYSTONE_7760
pins: MH

## KEYSTONE_7779
designator ST?
PC Screw Terminal Snap-In; Manufacturer: Keystone Electronics; Manufacturer Part Number: 7779
footprint KEYSTONE_7779
pins: MH

## KFS2-M3
designator PF?
Press-Fit Threaded Insert M3; Manufacturer: PEM; Manufacturer Part Number: KFS2-M3; Distributor Link: https://www.mouser.de/ProductDetail/PEM/KFS2-M3?qs=l4Gc20tDgJL482Qf8JcURA%3D%3D
footprint KFS2-M3
pins: PF
text: M3

## KH-TF035
designator U?
Card Slot Self-bouncing SMD SD Card / Memory Card Connector ROHS; Manufacturer: Shenzhen Kinghelm Elec; MPN: KH-TF035; LCSC NO: C4943329; ComponentLink1Description: LCSC Link; ComponentLink1URL: https://www.lcsc.com/product-detail/SD-Card-Memory-Card-Connector_Shenzhen-Kinghelm-Elec-KH-TF035_C4943329.html?s_z=n_KH-TF035
footprint KH-TF035 (Card Slot Self-bouncing SMD SD Card / Memory Card Connector ROHS)
pins: 1 DAT2, 2 CD/DAT3, 3 CMD, 4 VDD, 5 CLK, 6 VSS, 7 DAT0, 8 DAT1, 9 DETECT, 10 DETECT, 11 DETECT, 12 DETECT, 13 GND

## KLM4G1FETE-B041
designator U?
4GB eMMC 8-bit memory FBGA-153; Manufacturer: Samsung; Manufacturer Part Number: KLM4G1FETE-B041; LCSC: C500273; Distributor Link: https://www.lcsc.com/product-detail/eMMC_Samsung-KLM4G1FETE-B041_C500273.html
footprint FBGA-153-11X10X0MM8
pins: A3 DAT0 (io), A4 DAT1 (io), A5 DAT2 (io), A6 VSS (power), B2 DAT3 (io), B3 DAT4 (io), B4 DAT6 (io), B5 DAT6 (io), B6 DAT7 (io), C2 VDDI (power), C4 VSS (power), C6 VCCQ (power), E6 VCC (power), E7 VSS (power), F5 VCC (power), G5 VSS (power), H5 DSTR (out), H10 VSS (power), J5 VSS (power), J10 VCC (power), K5 RSTN (in), K8 VSS (power), K9 VCC (power), M4 VCCQ (power), M5 CMD (in), M6 CLK (in), N2 VSS (power), N4 VCCQ (power), N5 VSS (power), P3 VCCQ (power), P4 VSS (power), P5 VCCQ (power), P6 VSS (power)

## LD1117S50TR
designator U?
Linear Voltage Regulator IC 1 Output 800mA SOT-223; MF: STMicroelectronics; SnapEDA_Link: https://www.snapeda.com/parts/LD1117S50TR/STMicroelectronics/view-part/46893/?ref=snap; Price: None; Value: *; MP: LD1117S50TR; Check_prices: https://www.snapeda.com/parts/LD1117S50TR/STMicroelectronics/view-part/46893/?ref=eda; Availability: Good; Package: SOT-223 STMicroelectronics; Purchase-URL: https://pricing.snapeda.com/search/part/LD1117S50TR/?ref=eda
footprint SOT230P700X180-4N
pins: 1 GND (power), 2 OUT (out), 3 IN (in), 4 OUT (out)

## LDL1117S33R
designator U?
Linear Voltage Regulator IC Positive Fixed 1 Output 1.2A SOT-223; MF: STMicroelectronics; MP: LDL1117S33R; Package: SOT-223 STMicroelectronics; Purchase-URL: https://pricing.snapeda.com/search/part/LDL1117S33R/?ref=eda; Price: None; Value: *; SnapEDA_Link: https://www.snapeda.com/parts/LDL1117S33R/STMicroelectronics/view-part/?ref=snap; Check_prices: https://www.snapeda.com/parts/LDL1117S33R/STMicroelectronics/view-part/?ref=eda; Availability: In Stock
footprint SOT230P700X180-4N
pins: 1 GND (power), 2 VOUT (out), 3 VIN (in), 4 VOUT (out)

## LED_5MM_GENERIC_THT
designator D?, comment LED  (value not drawn)
5mm LED Generic THT
footprint LED_5MM
pins: A, K

## LED_5MM_HOLDER_16MM1
designator D?, comment LED  (value not drawn)
5mm LED Holder Height 16.1mm (w/o LED); Manufacturer: BIVAR; Manufacturer Part Number: SLM-490
footprint SLM-490
pins: A, K

## LED_5MM_HOLDER_17MM1
designator D?, comment LED  (value not drawn)
5mm LED Holder Height 17.1mm (w/o LED); Manufacturer: BIVAR; Manufacturer Part Number: SLM-530
footprint SLM-530
pins: A, K

## LED_5MM_HOLDER_20MM2
designator D?, comment LED  (value not drawn)
5mm LED Holder Height 20.2mm (w/o LED); Manufacturer: BIVAR; Manufacturer Part Number: SLM-650
footprint SLM-650
pins: A, K

## LED_0402_BLUE
designator D?, comment BLUE  (value not drawn)
LED 0402 BLUE SMD
footprint LED_0402_BLUE
pins: A, K

## LED_0402_GREEN
designator D?, comment GREEN  (value not drawn)
LED 0402 GREEN SMD
footprint LED_0402_GREEN
pins: A, K

## LED_0402_RED
designator D?, comment RED  (value not drawn)
LED 0402 RED SMD
footprint LED_0402_RED
pins: A, K

## LED_0402_YELLOW
designator D?, comment YELLOW  (value not drawn)
LED 0402 YELLOW SMD
footprint LED_0402_YELLOW
pins: A, K

## LED_0603_BLUE
designator D?, comment BLUE  (value not drawn)
LED 0603 BLUE SMD
footprint LED_0603_BLUE
pins: A, K

## LED_0603_GREEN
designator D?, comment GREEN  (value not drawn)
LED 0603 GREEN SMD
footprint LED_0603_GREEN
pins: A, K

## LED_0603_RED
designator D?, comment RED  (value not drawn)
LED 0603 RED SMD
footprint LED_0603_RED
pins: A, K

## LED_0603_YELLOW
designator D?, comment YELLOW  (value not drawn)
LED 0603 YELLOW SMD
footprint LED_0603_YELLOW
pins: A, K

## LED_0805_BLUE
designator D?, comment BLUE  (value not drawn)
LED 0805 BLUE SMD; Manufacturer: *; Manufacturer Part Number: *; Distributor Link: *; LCSC: *
footprint LED_0805_BLUE
pins: A, K

## LED_0805_GREEN
designator D?, comment GREEN  (value not drawn)
LED 0805 GREEN SMD; Manufacturer: *; Manufacturer Part Number: *; Distributor Link: *; LCSC: *
footprint LED_0805_GREEN
pins: A, K

## LIS3DHTR
designator U?
Accelerometer X, Y, Z Axis Â±2g, 4g, 8g, 16g 0.5Hz ~ 625Hz 16-LGA (3x3); MF: STMicroelectronics; Value: *; Package: LGA-16 STMicroelectronics; Check_prices: https://www.snapeda.com/parts/LIS3DHTR/STMicroelectronics/view-part/278195/?ref=eda; MP: LIS3DHTR; SnapEDA_Link: https://www.snapeda.com/parts/LIS3DHTR/STMicroelectronics/view-part/278195/?ref=snap; Digi-Key_Part_Number: 497-10613-1-ND
footprint XDCR_LIS3DHTR
pins: 1 VDD_IO (power), 4 SCL/SPC (in), 5 GND (power), 6 SDA/SDI/SDO (io), 7 SDO/SA0 (io), 8 CS (in), 9 INT2 (out), 10 RES, 11 INT1 (out), 12 GND (power), 13 ADC3 (in), 14 VDD (power), 15 ADC2 (in), 16 ADC1 (in)

## LL-509RGBC2E-006
designator D?
RGB LED Common Cathode 5MM THT; Manufacturer: Luckylight; Manufacturer Part Number: LL-509RGBC2E-006; Datasheet: https://www.tme.eu/en/details/ll-509rgbc2e-006/tht-leds-round/luckylight/
footprint LED_RGB_5MM_THT
pins: 1 AG, 2 AR, 3 CC, 4 AB

## LL-509RGBM2E-004
designator D?
RGB LED Common Anode 5MM THT; Manufacturer: Luckylight; Manufacturer Part Number: LL-509RGBM2E-004; Datasheet: https://www.tme.eu/de/details/ll-509rgbm2e-004/tht-leds-round/luckylight/
footprint LED_RGB_5MM_THT
pins: 1 CG, 2 CB, 3 AC, 4 CR

## LM339PW
designator U?
Quad Differential Comparators; Manufacturer: Texas Instruments; Manufacturer Part Number: LM339PW
footprint TSSOP-14
pins: 1 1OUT, 2 2OUT, 3 VCC, 4 2IN-, 5 2IN+, 6 1IN-, 7 1IN+, 8 3IN-, 9 3IN+, 10 4IN-, 11 4IN+, 12 GND, 13 OUT4, 14 OUT3

## LM358M
designator U?
2-Channel, 1MHz, industry standard, 32V op amp 8-SOIC 0 to 70; MF: Texas Instruments; SnapEDA_Link: https://www.snapeda.com/parts/LM358M/Texas+Instruments/view-part/?ref=snap; Purchase-URL: https://pricing.snapeda.com/search/part/LM358M/?ref=eda; Value: *; MP: LM358M; Availability: In Stock; Check_prices: https://www.snapeda.com/parts/LM358M/Texas+Instruments/view-part/?ref=eda; Package: SOIC-8 Texas Instruments; Price: None
footprint SOIC127P599X175-8N
pins: 1 OUTA (out), 2 NEGA (in), 3 POSA (in), 4 GND (power), 5 POSB (in), 6 NEGB (in), 7 OUTB (out), 8 V+ (power)

## LM358PT
designator U?
General Purpose Amplifier 2 Circuit - 8-TSSOP; MF: STMicroelectronics; SnapEDA_Link: https://www.snapeda.com/parts/LM358PT/STMicroelectronics/view-part/?ref=snap; Package: TSSOP-8 STMicroelectronics; Value: *; MP: LM358PT; Check_prices: https://www.snapeda.com/parts/LM358PT/STMicroelectronics/view-part/?ref=eda
footprint SOP65P640X120-8N
part A pins: 1 OUT1 (out), 2 IN1- (in), 3 IN1+ (in), 4 -V (power), 8 +V (power)
part B pins: 5 IN2+ (in), 6 IN2- (in), 7 OUT2 (out)

## LM2596S-5.0
designator VR?
SIMPLE SWITCHER&reg; 4.5V to 40V, 3A Low Component Count Step-Down Regulator; MP: LM2596S-5.0/NOPB; MF: Texas Instruments; Price: None; Availability: In Stock; Package: TO-263-5 Texas Instruments; SnapEDA_Link: https://www.snapeda.com/parts/LM2596S-5.0/NOPB/Texas+Instruments/view-part/?ref=snap; Check_prices: https://www.snapeda.com/parts/LM2596S-5.0/NOPB/Texas+Instruments/view-part/?ref=eda; Value: *; Purchase-URL: https://pricing.snapeda.com/search/part/LM2596S-5.0/NOPB/?ref=eda
footprint TO170P1524X483-6N
pins: 1 VIN (in), 2 OUTPUT (out), 3 GROUND (power), 4 FEEDBACK (in), 5 ~{ON}/OFF (in), 6 GND_TAB (power)

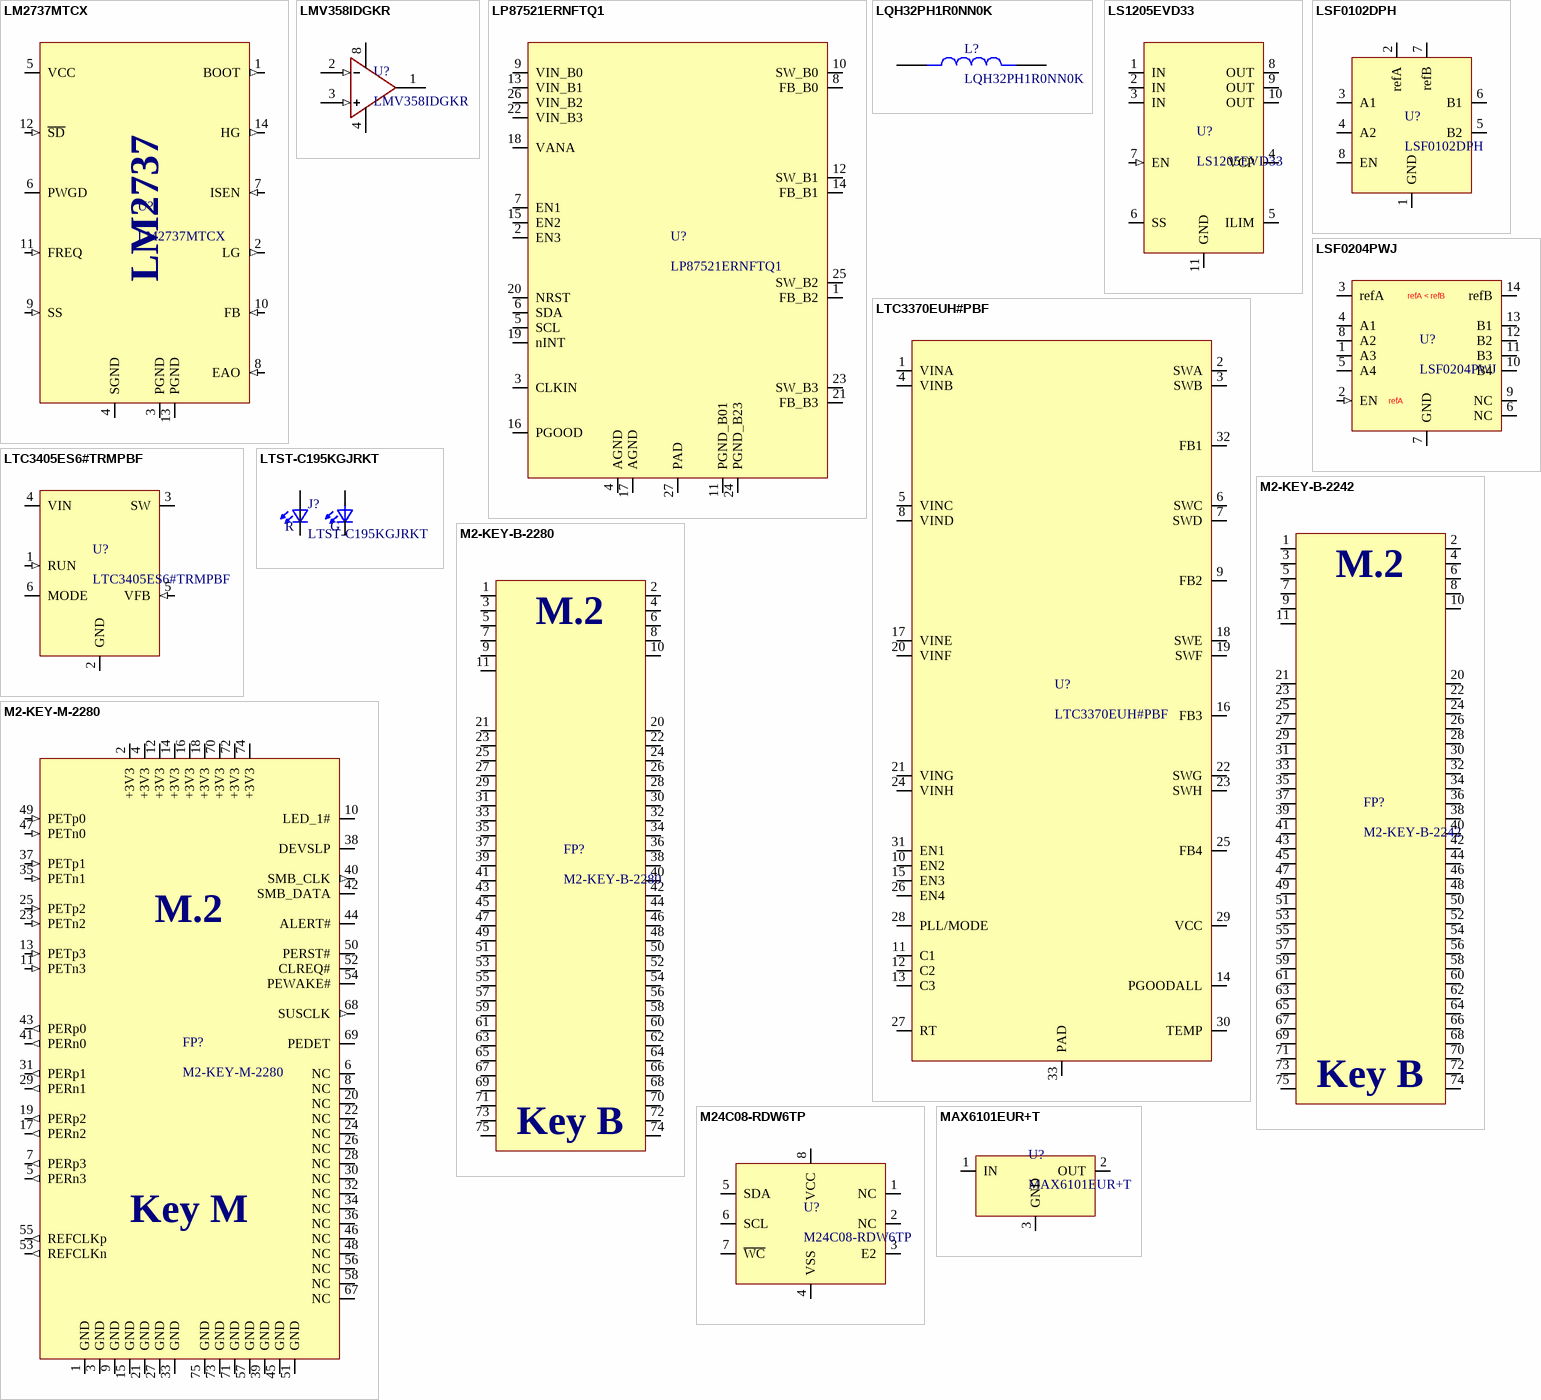
[diagram p15: symbols LM2737MTCX to MAX6101EUR+T]

## LM2737MTCX
designator U?
N-Channel FET Synchronous Buck Regulator Controller for Low Output / Voltages; Manufacturer: Texas Instruments; Manufacturer Part Number: LM2737MTCX
footprint TSSOP-14
pins: 1 BOOT (out), 2 LG (out), 3 PGND (power), 4 SGND (power), 5 VCC (power), 6 PWGD (oc), 7 ISEN (in), 8 EAO (in), 9 SS (in), 10 FB (in), 11 FREQ (in), 12 ~{SD} (in), 13 PGND (power), 14 HG (out)
text: LM2737

## LMV358IDGKR
designator U?
Dual, 5.5-V, 1-MHz, RRO operational amplifier; MF: Texas Instruments; SnapEDA_Link: https://www.snapeda.com/parts/LMV358IDGKR/Texas+Instruments/view-part/?ref=snap; Package: VSSOP-8 Texas Instruments; LCSC: https://www.lcsc.com/product-detail/Operational-Amplifier_Texas-Instruments-LMV358IDGKR_C105242.html?s_z=n_LMV358IDGKR; MP: LMV358IDGKR; Check_prices: https://www.snapeda.com/parts/LMV358IDGKR/Texas+Instruments/view-part/?ref=eda
footprint SOP65P490X110-8N
pins: 1, 2 (in), 3 (in), 4 (power), 8 (power)

## LP87521ERNFTQ1
designator U?
DC/DC Switching Voltage Regulator 10-A, 4-phase, single output buck converter with integrated switches 26-VQFN-HR
footprint VQFN-HR
pins: 1 FB_B2, 2 EN3, 3 CLKIN, 4 AGND, 5 SCL, 6 SDA, 7 EN1, 8 FB_B0, 9 VIN_B0, 10 SW_B0, 11 PGND_B01, 12 SW_B1, 13 VIN_B1, 14 FB_B1, 15 EN2, 16 PGOOD, 17 AGND, 18 VANA, 19 nINT, 20 NRST, 21 FB_B3, 22 VIN_B3, 23 SW_B3, 24 PGND_B23, 25 SW_B2, 26 VIN_B2, 27 PAD

## LQH32PH1R0NN0K
designator L?
FIXED IND 22UH 450MA 810 MOHM; Package: None; Price: None; Value: *; MP: LQH32PH1R0NN0K; Availability: Unavailable
footprint IND_LQH32PH1R0NN0K
pins: 1, 2

## LS1205EVD33
designator U?
18V, 5A eFuse with Programmable Current Limit and Output Voltage Clamp; Manufacturer: Littelfuse; Manufacturer Part Number: LS1205EVD33
footprint DFN3x3_10L
pins: 1 IN (power), 2 IN (power), 3 IN (power), 4 VCP, 5 ILIM, 6 SS, 7 EN (in), 8 OUT (power), 9 OUT (power), 10 OUT (power), 11 GND (power)

## LSF0102DPH
designator U?
2-bit bidirectional multi-voltage level translator; open-drain; / push-pull; Manufacturer: Nexperia; Manufacturer Part Number: LSF0102DPH
footprint TSSOP-8
pins: 1 GND, 2 refA, 3 A1, 4 A2, 5 B2, 6 B1, 7 refB, 8 EN

## LSF0204PWJ
designator U?
4-bit bidirectional multi-voltage level translator; Manufacturer: Nexperia; Manufacturer Part Number: LSF0204PWJ; Distributor Link: https://www.mouser.de/ProductDetail/Nexperia/LSF0204PWJ?qs=sPbYRqrBIVlVSmmo7LgSzQ%3D%3D; LCSC: C4363923
footprint TSSOP-14
pins: 1 A3 (io), 2 EN (in), 3 refA (power), 4 A1 (io), 5 A4 (io), 6 NC, 7 GND (power), 8 A2 (io), 9 NC, 10 B4 (io), 11 B3 (io), 12 B2 (io), 13 B1 (io), 14 refB (power)
text: refA < refB

## LTC3370EUH#PBF
designator U?
Switching Regulators 4-Channel 8A Configurable Buck DC/DC; Manufacturer: Analog Devices; Manufacturer Part Number: LTC3370EUH#PBF
footprint QFN32-5X5
pins: 1 VINA, 2 SWA, 3 SWB, 4 VINB, 5 VINC, 6 SWC, 7 SWD, 8 VIND, 9 FB2, 10 EN2, 11 C1, 12 C2, 13 C3, 14 PGOODALL, 15 EN3, 16 FB3, 17 VINE, 18 SWE, 19 SWF, 20 VINF, 21 VING, 22 SWG, 23 SWH, 24 VINH, 25 FB4, 26 EN4, 27 RT, 28 PLL/MODE, 29 VCC, 30 TEMP, 31 EN1, 32 FB1, 33 PAD

## LTC3405ES6#TRMPBF
designator U?
1.5MHz, 300mA / Synchronous Step-Down / Regulator in ThinSOT; Manufacturer: Analog Devices; Manufacturer Part Number: LTC3405ES6#TRMPBF
footprint SOT-23-6
pins: 1 RUN (in), 2 GND (power), 3 SW (power), 4 VIN (power), 5 VFB (in), 6 MODE

## LTST-C195KGJRKT
designator J?
Green, Red 571nm Green, 631nm Red LED Indication - Discrete 2V Green, 2V Red 0606 (1616 Metric); MF: Lite-On Inc.; Package: None; Price: None; Check_prices: https://www.snapeda.com/parts/LTST-C195KGJRKT/Lite-On+Inc./view-part/?ref=eda; Value: *; SnapEDA_Link: https://www.snapeda.com/parts/LTST-C195KGJRKT/Lite-On+Inc./view-part/?ref=snap; MP: LTST-C195KGJRKT; Availability: In Stock; Purchase-URL: https://pricing.snapeda.com/search?q=LTST-C195KGJRKT&ref=eda
footprint LTST-BILED-15X16
pins: P$1 A1, P$2 A2, P$3 K1, P$4 K2
text: R; G

## M2-KEY-B-2242
designator FP?
M.2 Key B 22x42 Footprint
footprint M2-KEY-B-2242
pins: 1, 2, 3, 4, 5, 6, 7, 8, 9, 10, 11, 20, 21, 22, 23, 24, 25, 26, 27, 28, 29, 30, 31, 32, 33, 34, 35, 36, 37, 38, 39, 40, 41, 42, 43, 44, 45, 46, 47, 48, 49, 50, 51, 52, 53, 54, 55, 56, 57, 58, 59, 60, 61, 62, 63, 64, 65, 66, 67, 68, 69, 70, 71, 72, 73, 74, 75
text: M.2; Key B

## M2-KEY-B-2280
designator FP?
M.2 Key B 22x80mm Footprint Outline
footprint M2-KEY-B-2280
pins: 1, 2, 3, 4, 5, 6, 7, 8, 9, 10, 11, 20, 21, 22, 23, 24, 25, 26, 27, 28, 29, 30, 31, 32, 33, 34, 35, 36, 37, 38, 39, 40, 41, 42, 43, 44, 45, 46, 47, 48, 49, 50, 51, 52, 53, 54, 55, 56, 57, 58, 59, 60, 61, 62, 63, 64, 65, 66, 67, 68, 69, 70, 71, 72, 73, 74, 75
text: M.2; Key B

## M2-KEY-M-2280
designator FP?  (no BOM)
M.2 Key M 22mm x 80mm
footprint M2-KEY-M-2280
pins: 1 GND (power), 2 +3V3 (power), 3 GND (power), 4 +3V3 (power), 5 PERn3 (out), 6 NC, 7 PERp3 (out), 8 NC, 9 GND (power), 10 LED_1#, 11 PETn3 (in), 12 +3V3 (power), 13 PETp3 (in), 14 +3V3 (power), 15 GND (power), 16 +3V3 (power), 17 PERn2 (out), 18 +3V3 (power), 19 PERp2 (out), 20 NC, 21 GND (power), 22 NC, 23 PETn2 (in), 24 NC, 25 PETp2 (in), 26 NC, 27 GND (power), 28 NC, 29 PERn1 (out), 30 NC, 31 PERp1 (out), 32 NC, 33 GND (power), 34 NC, 35 PETn1 (in), 36 NC, 37 PETp1 (in), 38 DEVSLP, 39 GND (power), 40 SMB_CLK (out), 41 PERn0 (out), 42 SMB_DATA (io), 43 PERp0 (out), 44 ALERT#, 45 GND (power), 46 NC, 47 PETn0 (in), 48 NC, 49 PETp0 (in), 50 PERST#, 51 GND (power), 52 CLREQ#, 53 REFCLKn (out), 54 PEWAKE#, 55 REFCLKp (out), 56 NC, 57 GND (power), 58 NC, 67 NC, 68 SUSCLK (out), 69 PEDET, 70 +3V3 (power), 71 GND (power), 72 +3V3 (power), 73 GND (power), 74 +3V3 (power), 75 GND (power)
text: M.2; Key M

## M24C08-RDW6TP
designator U?
EEPROM I2C 8kbit TSSOP-8; Manufacturer: STMicroelectronics; Manufacturer Part Number: M24C08-RDW6TP
footprint TSSOP-8-DW
pins: 1 NC, 2 NC, 3 E2, 4 VSS, 5 SDA, 6 SCL, 7 ~{WC}, 8 VCC

## MAX6101EUR+T
designator U?
Voltage References 1.25V Low-Cost, Micropower, Low-Dropout, High-Output-Current, SOT23; Manufacturer: Maxim Integrated; Manufacturer Part Number: MAX6101EUR+T
footprint SOT-23-3
pins: 1 IN, 2 OUT, 3 GND

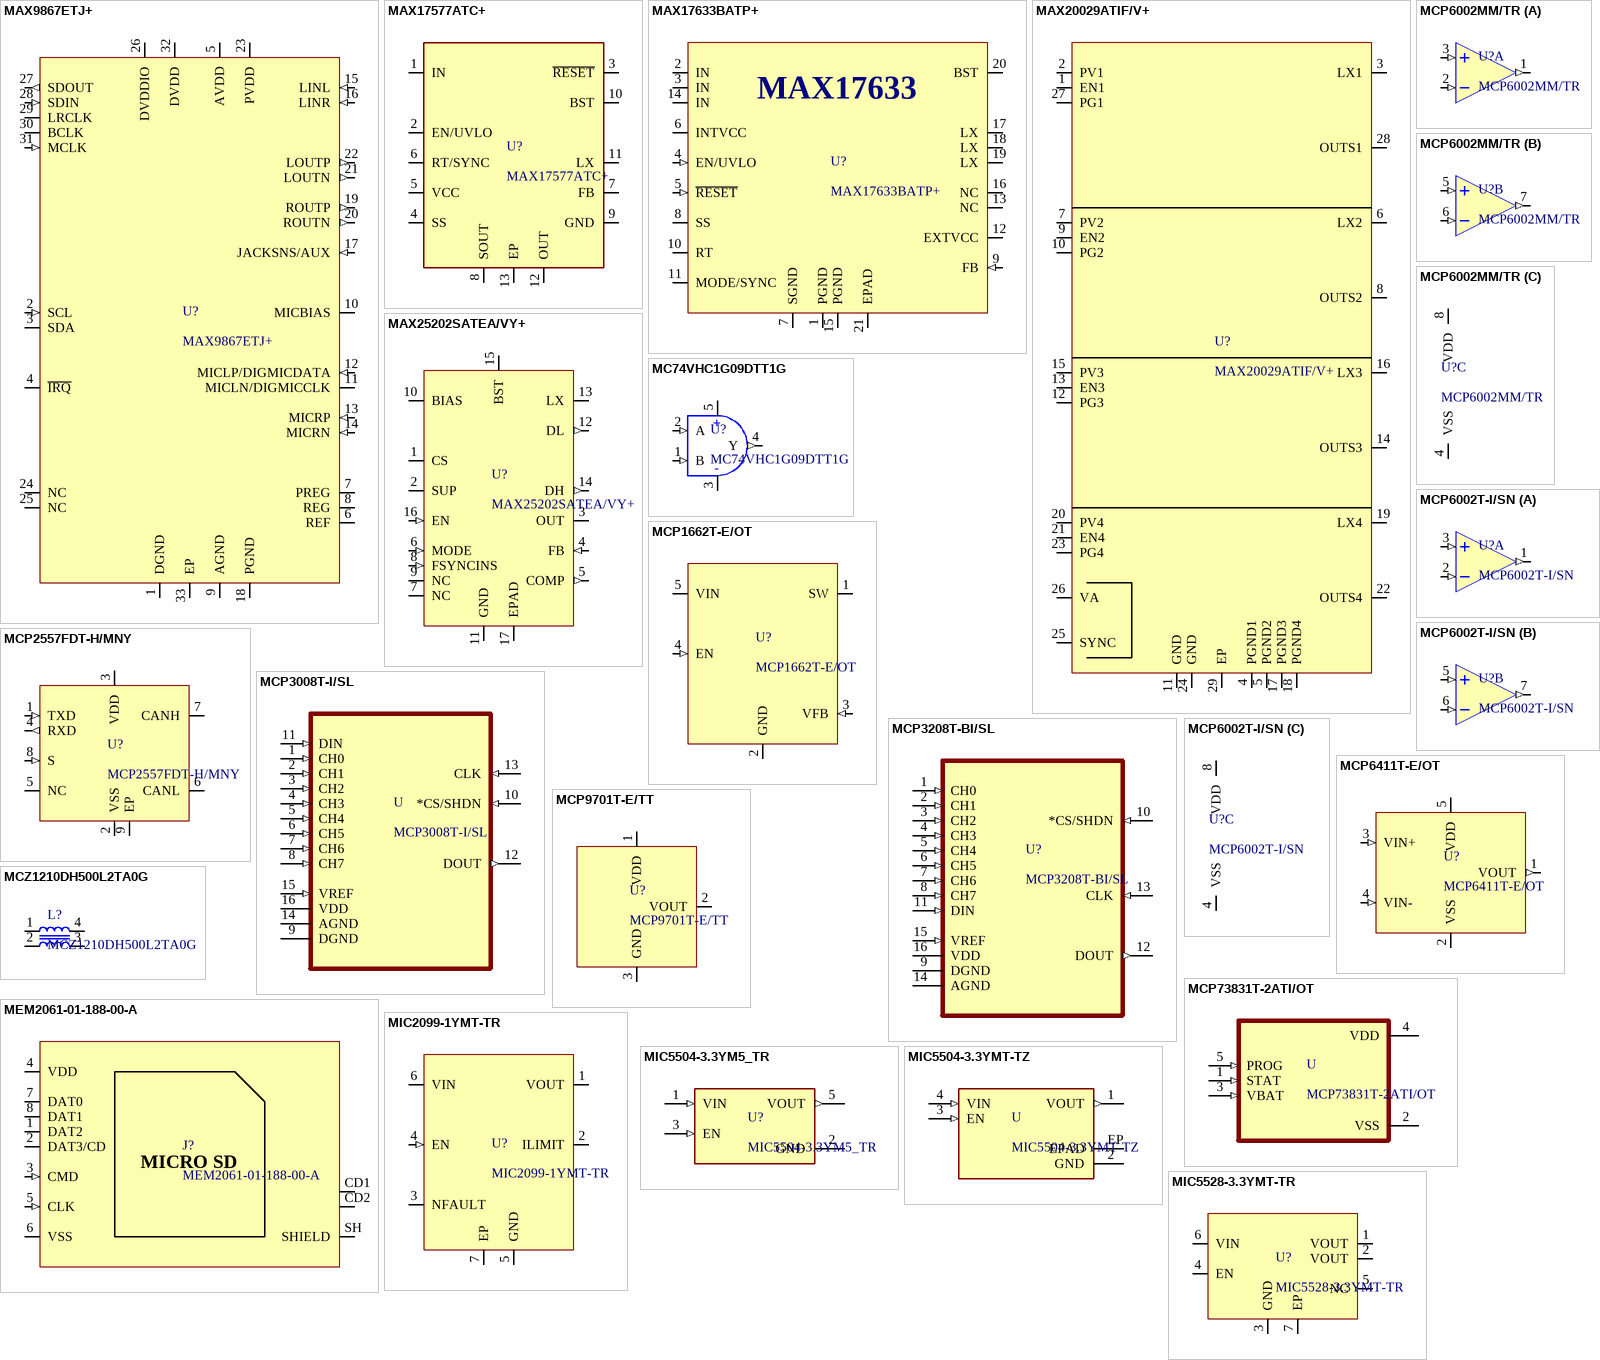
[diagram p16: symbols MAX9867ETJ+ to MIC5528-3.3YMT-TR]

## MAX9867ETJ+
designator U?
Ultra-Low Power Stereo Audio Codec; Manufacturer: Analog Devices; Manufacturer Part Number: MAX9867ETJ+; Distributor Link: https://www.mouser.de/ProductDetail/Analog-Devices-Maxim-Integrated/MAX9867ETJ%2b?qs=sGAEpiMZZMtq3QB8qGen7SIHwSr8V4Ok%252Busc24GjQms%3D; LCSC: C1521470
footprint TQFN-32
pins: 1 DGND (power), 2 SCL (in), 3 SDA (io), 4 ~{IRQ} (oc), 5 AVDD (power), 6 REF (power), 7 PREG (power), 8 REG (power), 9 AGND (power), 10 MICBIAS (power), 11 MICLN/DIGMICCLK (io), 12 MICLP/DIGMICDATA (in), 13 MICRP (in), 14 MICRN (in), 15 LINL (in), 16 LINR (in), 17 JACKSNS/AUX (in), 18 PGND (power), 19 ROUTP (out), 20 ROUTN (out), 21 LOUTN (out), 22 LOUTP (out), 23 PVDD (power), 24 NC, 25 NC, 26 DVDDIO (power), 27 SDOUT (out), 28 SDIN (in), 29 LRCLK (io), 30 BCLK (io), 31 MCLK (in), 32 DVDD (power), 33 EP (power)

## MAX17577ATC+
designator U?
4.5V to 60V, 1A High-Efficiency, Synchronous, Inverting Output DC-DC Converters; Manufacturer: Maxim Integrated; Manufacturer Part Number: MAX17577ATC+
footprint SON50P300X300X80-13N
pins: 1 IN, 2 EN/UVLO, 3 ~{RESET}, 4 SS, 5 VCC, 6 RT/SYNC, 7 FB, 8 SOUT, 9 GND, 10 BST, 11 LX, 12 OUT, 13 EP

## MAX17633BATP+
designator U?
4.5V to 36V, 3.5A, High Efficiency, / Synchronous Step-Down, DC-DC Converter; Manufacturer: Maxim Integrated; Manufacturer Part Number: MAX17633BATP+
footprint QFN50P400X400X80-21N
pins: 1 PGND (power), 2 IN (power), 3 IN (power), 4 EN/UVLO (in), 5 ~{RESET} (in), 6 INTVCC (power), 7 SGND (power), 8 SS, 9 FB (in), 10 RT, 11 MODE/SYNC, 12 EXTVCC (power), 13 NC, 14 IN (power), 15 PGND (power), 16 NC, 17 LX (power), 18 LX (power), 19 LX (power), 20 BST (power), 21 EPAD (power)
text: MAX17633

## MAX20029ATIF/V+
designator U?
Switching Voltage Regulator Buck 4-Channel 700mV to 4V 1.5A TQFN-EP-28; Manufacturer: Maxim Integrated; Manufacturer Part Number: MAX20029ATIF/V+
footprint TQFN-28-5x5-EP (QFN, 28-Leads, Body 5.00x5.00mm, Pitch 0.50mm, Thermal Pad 2.70x2.70mm, IPC Medium Density)
pins: 1 EN1, 2 PV1, 3 LX1, 4 PGND1, 5 PGND2, 6 LX2, 7 PV2, 8 OUTS2, 9 EN2, 10 PG2, 11 GND, 12 PG3, 13 EN3, 14 OUTS3, 15 PV3, 16 LX3, 17 PGND3, 18 PGND4, 19 LX4, 20 PV4, 21 EN4, 22 OUTS4, 23 PG4, 24 GND, 25 SYNC, 26 VA, 27 PG1, 28 OUTS1, 29 EP

## MAX25202SATEA/VY+
designator U?
36V HV Synchronous Boost Controller for / Automotive Infotainment Applications; Manufacturer: Maxim Integrated; Manufacturer Part Number: MAX25202SATEA/VY+
footprint QFN50P300X300X80-17N
pins: 1 CS (power), 2 SUP (power), 3 OUT (power), 4 FB (in), 5 COMP (out), 6 MODE (in), 7 NC, 8 FSYNCINS (in), 9 NC, 10 BIAS (power), 11 GND (power), 12 DL (out), 13 LX (power), 14 DH (out), 15 BST (power), 16 EN (in), 17 EPAD (power)

## MC74VHC1G09DTT1G
designator U?
2-Input AND Gate with Open Drain Output; Manufacturer: onsemi; Manufacturer Part Number: MC74VHC1G09DTT1G; Distributor Link: https://eu.mouser.com/ProductDetail/onsemi/MC74VHC1G09DTT1G?qs=YOLdObVcOZlHcF2aq0TqEg%3D%3D
footprint TSOT25 (SOT23, 5-Leads, Body 2.90x2.80mm, Pitch 0.95mm, IPC Medium Density)
pins: 1 B (in), 2 A (in), 3 GND (power), 4 Y (out), 5 VCC (power)
text: +; -

## MCP1662T-E/OT
designator U?
High-Voltage Step-Up LED Driver with UVLO and Open Load Protection; Manufacturer: Microchip; Manufacturer Part Number: MCP1662T-E/OT; Distributor Link: https://www.mouser.de/ProductDetail/Microchip-Technology/MCP1662T-E-OT?qs=rQCxX1QmdjLP2YwxpS4WcQ%3D%3D
footprint SOT-23-5 (SOT23, 5-Leads, Body 2,90x2,80mm, Pitch 0,95mm, IPC Medium Density)
pins: 1 SW (power), 2 GND (power), 3 VFB (in), 4 EN (in), 5 VIN (power)

## MCP2557FDT-H/MNY
designator U?
CAN FD Transceiver with Silent Mode; Manufacturer: Microchip; Manufacturer Part Number: CAN FD Transceiver with Silent Mode
footprint TDFN-8
pins: 1 TXD (in), 2 VSS (power), 3 VDD (power), 4 RXD (out), 5 NC, 6 CANL (io), 7 CANH (io), 8 S (in), 9 EP (power)

## MCP3008T-I/SL
designator U
10 Bit Analog to Digital Converter 4, 8 Input 1 SAR 16-SOIC; MF: Microchip; Package: SOIC-16 Microchip; Price: None; Availability: Unavailable; MP: MCP3008T-I/SL; SnapEDA_Link: https://www.snapeda.com/parts/MCP3008T-I/SL/Microchip/view-part/262867/?ref=snap; Value: *
footprint SOIC127P600X175-16N
pins: 1 CH0 (in), 2 CH1 (in), 3 CH2 (in), 4 CH3 (in), 5 CH4 (in), 6 CH5 (in), 7 CH6 (in), 8 CH7 (in), 9 DGND, 10 *CS/SHDN (in), 11 DIN (in), 12 DOUT (out), 13 CLK (in), 14 AGND, 15 VREF (in), 16 VDD (power)

## MCP3208T-BI/SL
designator U?
IC, 12 ADC, SMD, 3208; Package: None; Price: None; Value: *; MP: MCP3208T-BI/SL; Availability: Unavailable
footprint SOIC127P600X175-16N
pins: 1 CH0 (in), 2 CH1 (in), 3 CH2 (in), 4 CH3 (in), 5 CH4 (in), 6 CH5 (in), 7 CH6 (in), 8 CH7 (in), 9 DGND, 10 *CS/SHDN (in), 11 DIN (in), 12 DOUT (out), 13 CLK (in), 14 AGND, 15 VREF (in), 16 VDD (power)

## MCP6002MM/TR
designator U?
1MHZ CMOS Rail-to-Rail IO Opamp with RF Filter MSOP-8; Manufacturer: HGSEMI; Manufacturer Part Number: MCP6002MM/TR; LCSC: C910874
footprint SOIC-8 (SOIC, 8-Leads, Body 4.91x3.90mm, Pitch 1.27mm, IPC Medium Density)
footprint MSOP8 (TSOP, 8-Leads, Body 2.90x2.80mm, Pitch 0.65mm, IPC Medium Density)
part A pins: 1 1OUT (out), 2 1IN- (in), 3 1IN+ (in)
part B pins: 5 2IN+ (in), 6 2IN- (in), 7 2OUT (out)
part C pins: 4 VSS, 8 VDD

## MCP6002T-I/SN
designator U?
Dual Low-Power Rail-to-Rail Input/Output Operational Amplifiers; Manufacturer: Microchip; Manufacturer Part Number: MCP6002T-I/SN; Distributor Link: https://www.lcsc.com/product-detail/Operational-Amplifier_Microchip-Tech-MCP6002T-I-SN_C7377.html; LCSC: C7377
footprint SOIC-8 (SOIC, 8-Leads, Body 4.91x3.90mm, Pitch 1.27mm, IPC Medium Density)
part A pins: 1 1OUT (out), 2 1IN- (in), 3 1IN+ (in)
part B pins: 5 2IN+ (in), 6 2IN- (in), 7 2OUT (out)
part C pins: 4 VSS (power), 8 VDD (power)

## MCP6411T-E/OT
designator U?
Op Amp 1 MHz Rail-to-Rail Input/Output 1.7V to 5.5V 0.5V/us SOT-23-5; Manufacturer: Microchip; Manufacturer Part Number: MCP6411T-E/OT
footprint SOT-23-5 (SOT23, 5-Leads, Body 2,90x2,80mm, Pitch 0,95mm, IPC Medium Density)
pins: 1 VOUT (out), 2 VSS (power), 3 VIN+ (in), 4 VIN- (in), 5 VDD (power)

## MCP9701T-E/TT
designator U?
Temperature Sensor Analog -10 to +125 deg C SOT-23-3; Manufacturer: Microchip; Manufacturer Part Number: MCP9701T-E/TT
footprint SOT-23-3
pins: 1 VDD, 2 VOUT, 3 GND

## MCP73831T-2ATI/OT
designator U
Charger IC Lithium Ion/Polymer SOT-23-5; MF: Microchip; Availability: Unavailable; SnapEDA_Link: https://www.snapeda.com/parts/MCP73831T-2ATI/OT/Microchip/view-part/51423/?ref=snap; Price: None; MP: MCP73831T-2ATI/OT; Arrow_Americas-Purchase-URL: https://snapeda.com/shop?store=Arrow+Americas&id=51423; Package: SOT-23 Microchip; DigiKey-Purchase-URL: https://snapeda.com/shop?store=DigiKey&id=51423; Value: *; Mouser-Purchase-URL: https://snapeda.com/shop?store=Mouser&id=51423
footprint SOT95P280X145-5N
pins: 1 STAT (in), 2 VSS (power), 3 VBAT (in), 4 VDD (power), 5 PROG (in)

## MCZ1210DH500L2TA0G
designator L?
Common Mode Chokes / Filters 0504 50ohms 2 Lines HDMI, DVI, USB3.0; Manufacturer: TDK; Manufacturer Part Number: MCZ1210DH500L2TA0G
footprint MCZ1210DH
pins: 1, 2, 3, 4

## MEM2061-01-188-00-A
designator J?
Micro SD Card Holder Push-Push SMD; Manufacturer: GCT; Manufacturer Part Number: MEM2061-01-188-00-A; Distributor Link: *; LCSC: *
footprint MEM2061-01-188-00-A
pins: 1 DAT2 (io), 2 DAT3/CD (io), 3 CMD (in), 4 VDD (power), 5 CLK (in), 6 VSS (power), 7 DAT0 (io), 8 DAT1 (io), CD1 CARD DETECT, CD2 CARD DETECT, SH SHIELD
text: MICRO SD

## MIC2099-1YMT-TR
designator U?
Power Distribution Switch Resistor programmable current limit / – 0.1A to 1.1A 2.5V-5.5V; Manufacturer: Microchip; Manufacturer Part Number: MIC2099-1YMT-TR
footprint TMLF-6-1_6X1_6
pins: 1 VOUT (power), 2 ILIMIT, 3 NFAULT (oc), 4 EN (in), 5 GND (power), 6 VIN (power), 7 EP (power)

## MIC5504-3.3YM5_TR
designator U?
Linear Voltage Regulator IC 1 Output 300mA SOT-23-5; MF: Microchip; MP: MIC5504-3.3YM5 TR; Availability: Unavailable; Check_prices: https://www.snapeda.com/parts/MIC5504-3.3YM5%20TR/Microchip/view-part/423262/?ref=eda; SnapEDA_Link: https://www.snapeda.com/parts/MIC5504-3.3YM5%20TR/Microchip/view-part/423262/?ref=snap; Value: *; Price: None; Package: SOT-23 Microchip
footprint SOT95P280X145-5N
pins: 1 VIN (in), 2 GND (power), 3 EN (in), 5 VOUT (out)

## MIC5504-3.3YMT-TZ
designator U
Linear Voltage Regulator IC 1 Output 300mA 4-TDFN _1x1_; MF: Microchip; Value: *; Availability: Unavailable; Price: None; MP: MIC5504-3.3YMT-TZ; Package: TDFN-4 Microchip; SnapEDA_Link: https://www.snapeda.com/parts/MIC5504-3.3YMT-TZ/Microchip/view-part/493397/?ref=snap
footprint VREG_MIC5504-3.3YMT-TZ
pins: 1 VOUT (out), 2 GND (power), 3 EN (in), 4 VIN (in), EP EPAD (power)

## MIC5528-3.3YMT-TR
designator U?
LDO Regulator 3V3 500mA 2.5V<Vin<5.5V; Manufacturer: Microchip; Manufacturer Part Number: MIC5528-3.3YMT-TR
footprint TDFN-6
pins: 1 VOUT, 2 VOUT, 3 GND, 4 EN, 5 NC, 6 VIN, 7 EP

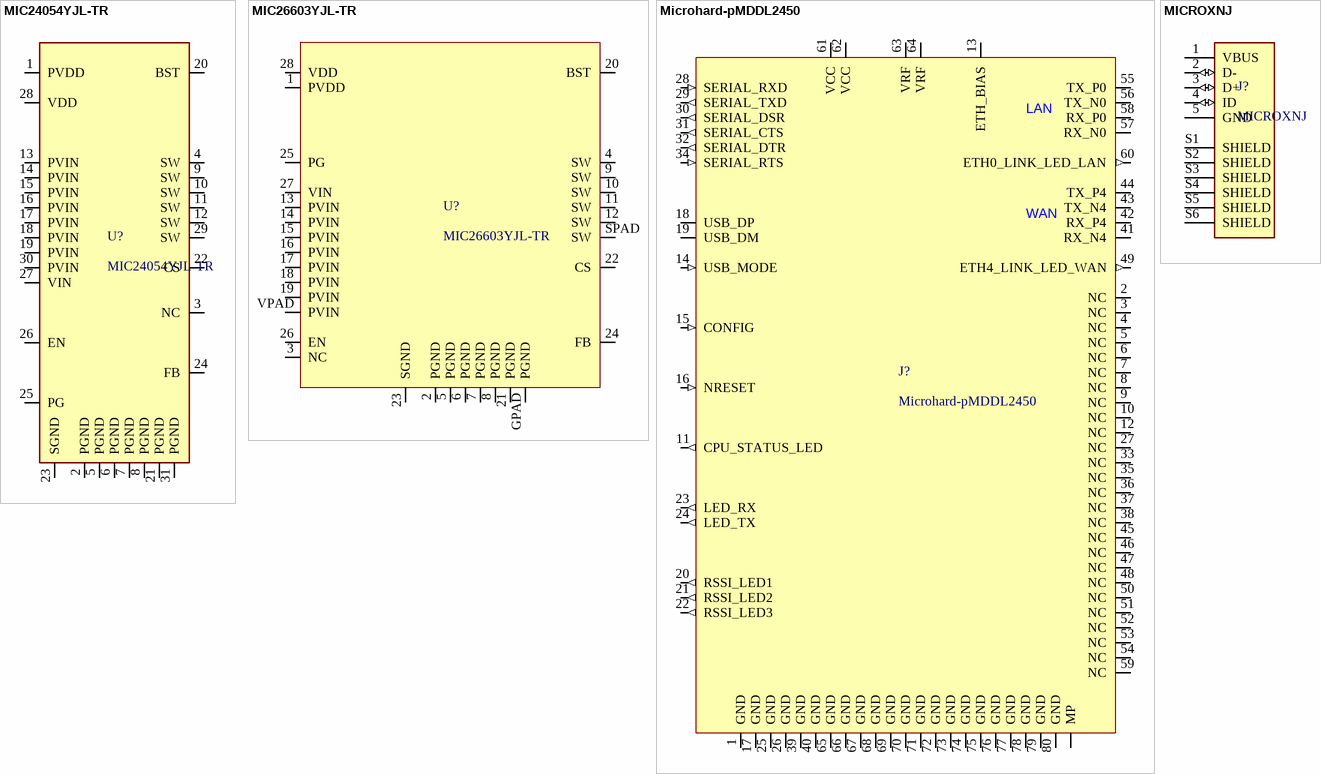
[diagram p17: symbols MIC24054YJL-TR to MICROXNJ]

## MIC24054YJL-TR
designator U?
4.5V to 19V, 0.8V to 5.5V, 9A High-Efficiency Buck Regulator; Manufacturer: Microchip; Manufacturer Part Number: MIC24054YJL-TR; Distributor Link: https://www.mouser.de/ProductDetail/Microchip-Technology-Atmel/MIC24054YJL-TR?qs=sGAEpiMZZMsMIqGZiACxIQCf%2FabZxxCzJUqMyy24idqsoP9BnCxFEg%3D%3D
footprint QFN28-MIC24054YJLTR
pins: 1 PVDD, 2 PGND, 3 NC, 4 SW, 5 PGND, 6 PGND, 7 PGND, 8 PGND, 9 SW, 10 SW, 11 SW, 12 SW, 13 PVIN, 14 PVIN, 15 PVIN, 16 PVIN, 17 PVIN, 18 PVIN, 19 PVIN, 20 BST, 21 PGND, 22 CS, 23 SGND, 24 FB, 25 PG, 26 EN, 27 VIN, 28 VDD, 29 SW, 30 PVIN, 31 PGND

## MIC26603YJL-TR
designator U?
DC/DC Buck Regulator 28V, 6A; Manufacturer: Microchip; Manufacturer Part Number: MIC26603YJL-TR
footprint MIC26603YJL-TR
pins: 1 PVDD, 2 PGND, 3 NC, 4 SW, 5 PGND, 6 PGND, 7 PGND, 8 PGND, 9 SW, 10 SW, 11 SW, 12 SW, 13 PVIN, 14 PVIN, 15 PVIN, 16 PVIN, 17 PVIN, 18 PVIN, 19 PVIN, 20 BST, 21 PGND, 22 CS, 23 SGND, 24 FB, 25 PG, 26 EN, 27 VIN, 28 VDD, GPAD PGND, SPAD SW, VPAD PVIN

## Microhard-pMDDL2450
designator J?
Microhard pMDDL2450 Module Socket; Manufacturer Part Number: pMDDL; Manufacturer: Microhard
footprint PMDDL
pins: 1 GND (power), 2 NC, 3 NC, 4 NC, 5 NC, 6 NC, 7 NC, 8 NC, 9 NC, 10 NC, 11 CPU_STATUS_LED (out), 12 NC, 13 ETH_BIAS (power), 14 USB_MODE (in), 15 CONFIG (in), 16 NRESET (in), 17 GND (power), 18 USB_DP (io), 19 USB_DM (io), 20 RSSI_LED1 (out), 21 RSSI_LED2 (out), 22 RSSI_LED3 (out), 23 LED_RX (out), 24 LED_TX (out), 25 GND (power), 26 GND (power), 27 NC, 28 SERIAL_RXD (in), 29 SERIAL_TXD (out), 30 SERIAL_DSR (out), 31 SERIAL_CTS (out), 32 SERIAL_DTR (out), 33 NC, 34 SERIAL_RTS (in), 35 NC, 36 NC, 37 NC, 38 NC, 39 GND (power), 40 GND (power), 41 RX_N4 (io), 42 RX_P4 (io), 43 TX_N4 (io), 44 TX_P4 (io), 45 NC, 46 NC, 47 NC, 48 NC, 49 ETH4_LINK_LED_WAN (out), 50 NC, 51 NC, 52 NC, 53 NC, 54 NC, 55 TX_P0 (io), 56 TX_N0 (io), 57 RX_N0 (io), 58 RX_P0 (io), 59 NC, 60 ETH0_LINK_LED_LAN (out), 61 VCC (power), 62 VCC (power), 63 VRF (power), 64 VRF (power), 65 GND (power), 66 GND (power), 67 GND (power), 68 GND (power), 69 GND (power), 70 GND (power), 71 GND (power), 72 GND (power), 73 GND (power), 74 GND (power), 75 GND (power), 76 GND (power), 77 GND (power), 78 GND (power), 79 GND (power), 80 GND (power), MP (power)
text: LAN; WAN

## MICROXNJ
designator J?
Micro USB; MF: Shouhan; Check_prices: https://www.snapeda.com/parts/MICROXNJ/Shouhan/view-part/5703693/?ref=eda; Price: None; SnapEDA_Link: https://www.snapeda.com/parts/MICROXNJ/Shouhan/view-part/5703693/?ref=snap; Availability: Unavailable; Package: Package; MP: MICROXNJ; Value: *
footprint SHOUHAN_MICROXNJ
pins: 1 VBUS (power), 2 D- (io), 3 D+ (io), 4 ID (io), 5 GND (power), S1 SHIELD, S2 SHIELD, S3 SHIELD, S4 SHIELD, S5 SHIELD, S6 SHIELD

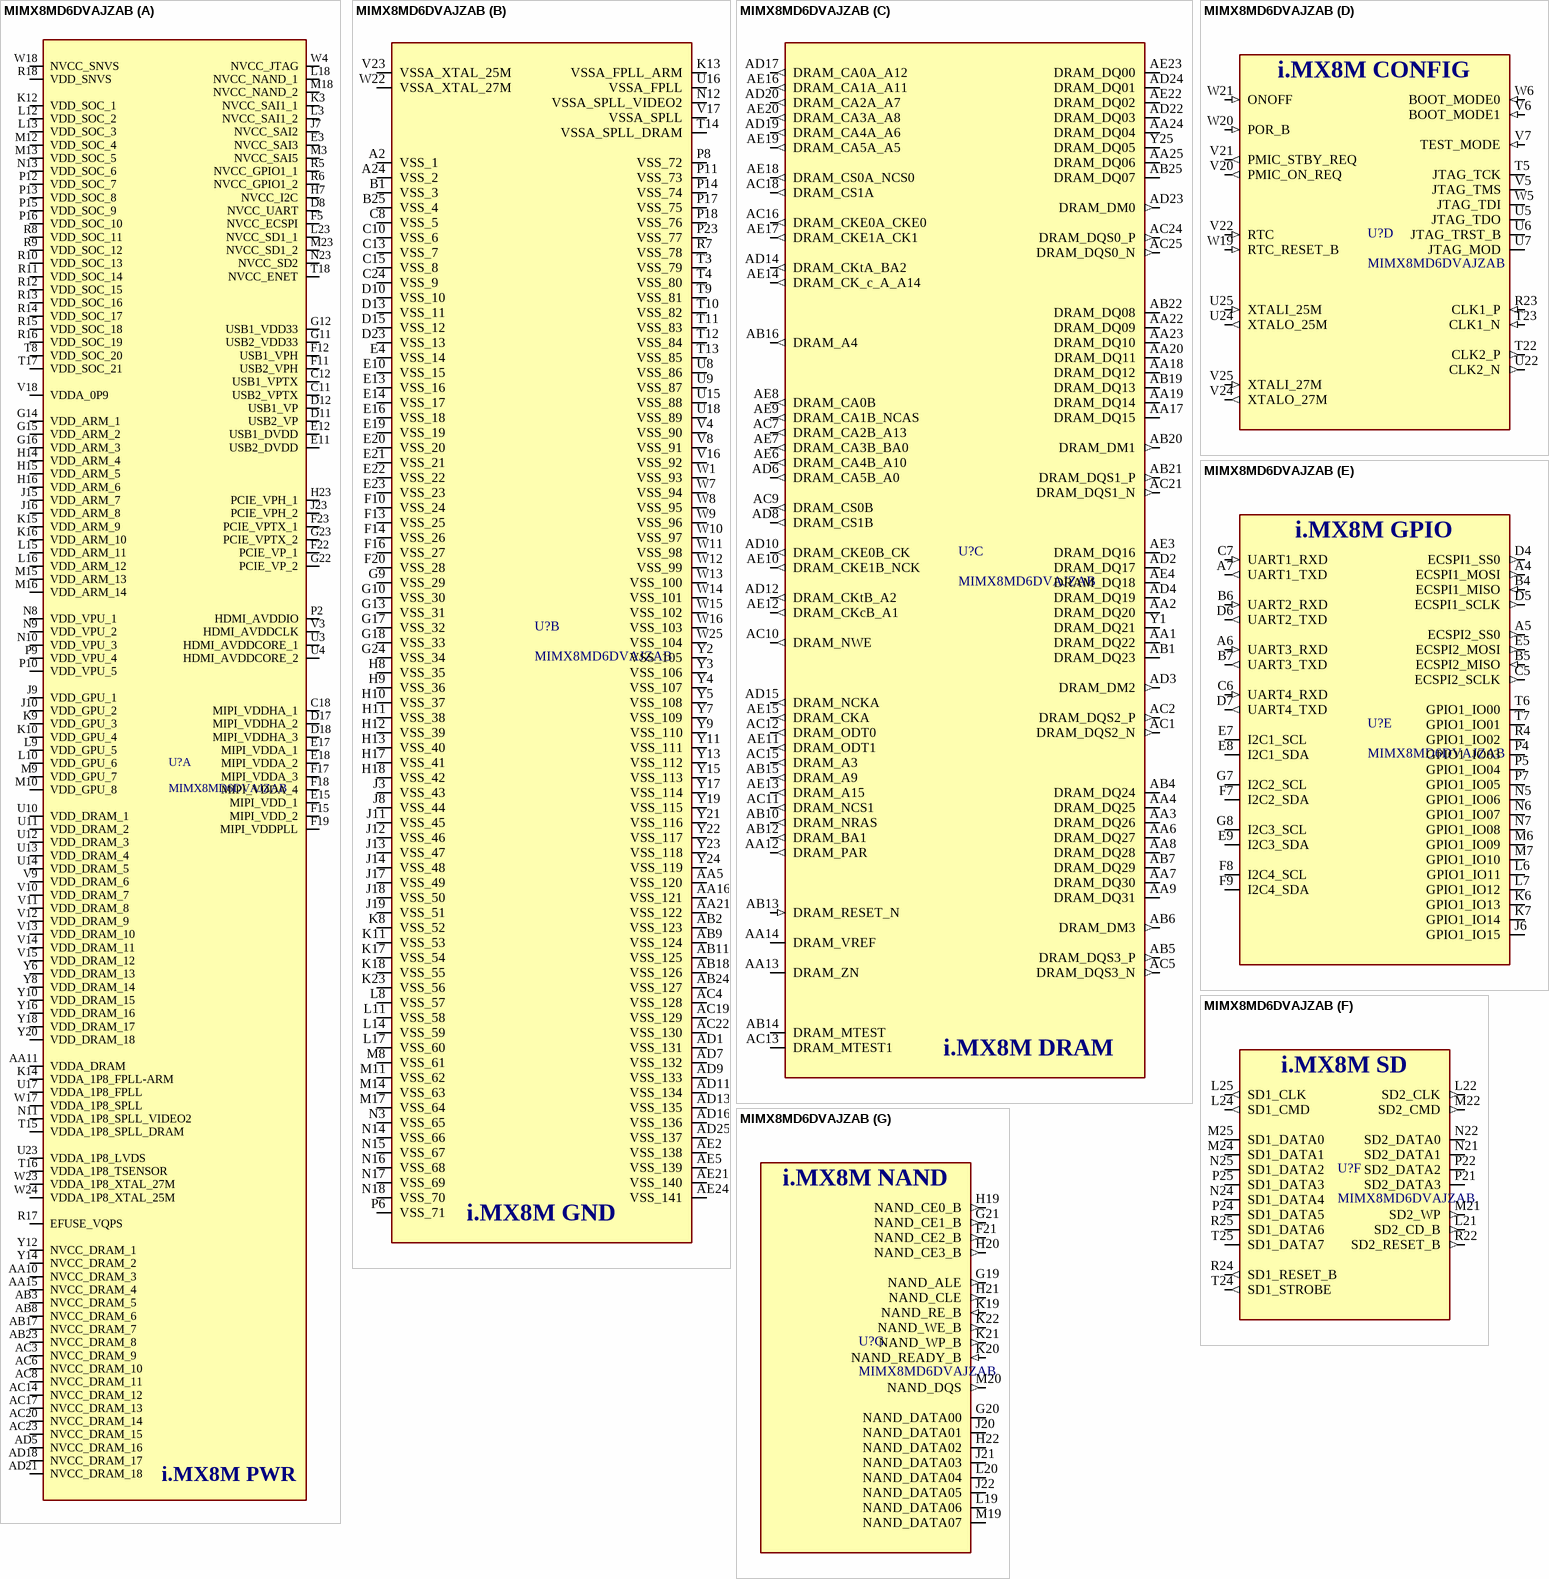
[diagram p18: symbol MIMX8MD6DVAJZAB]

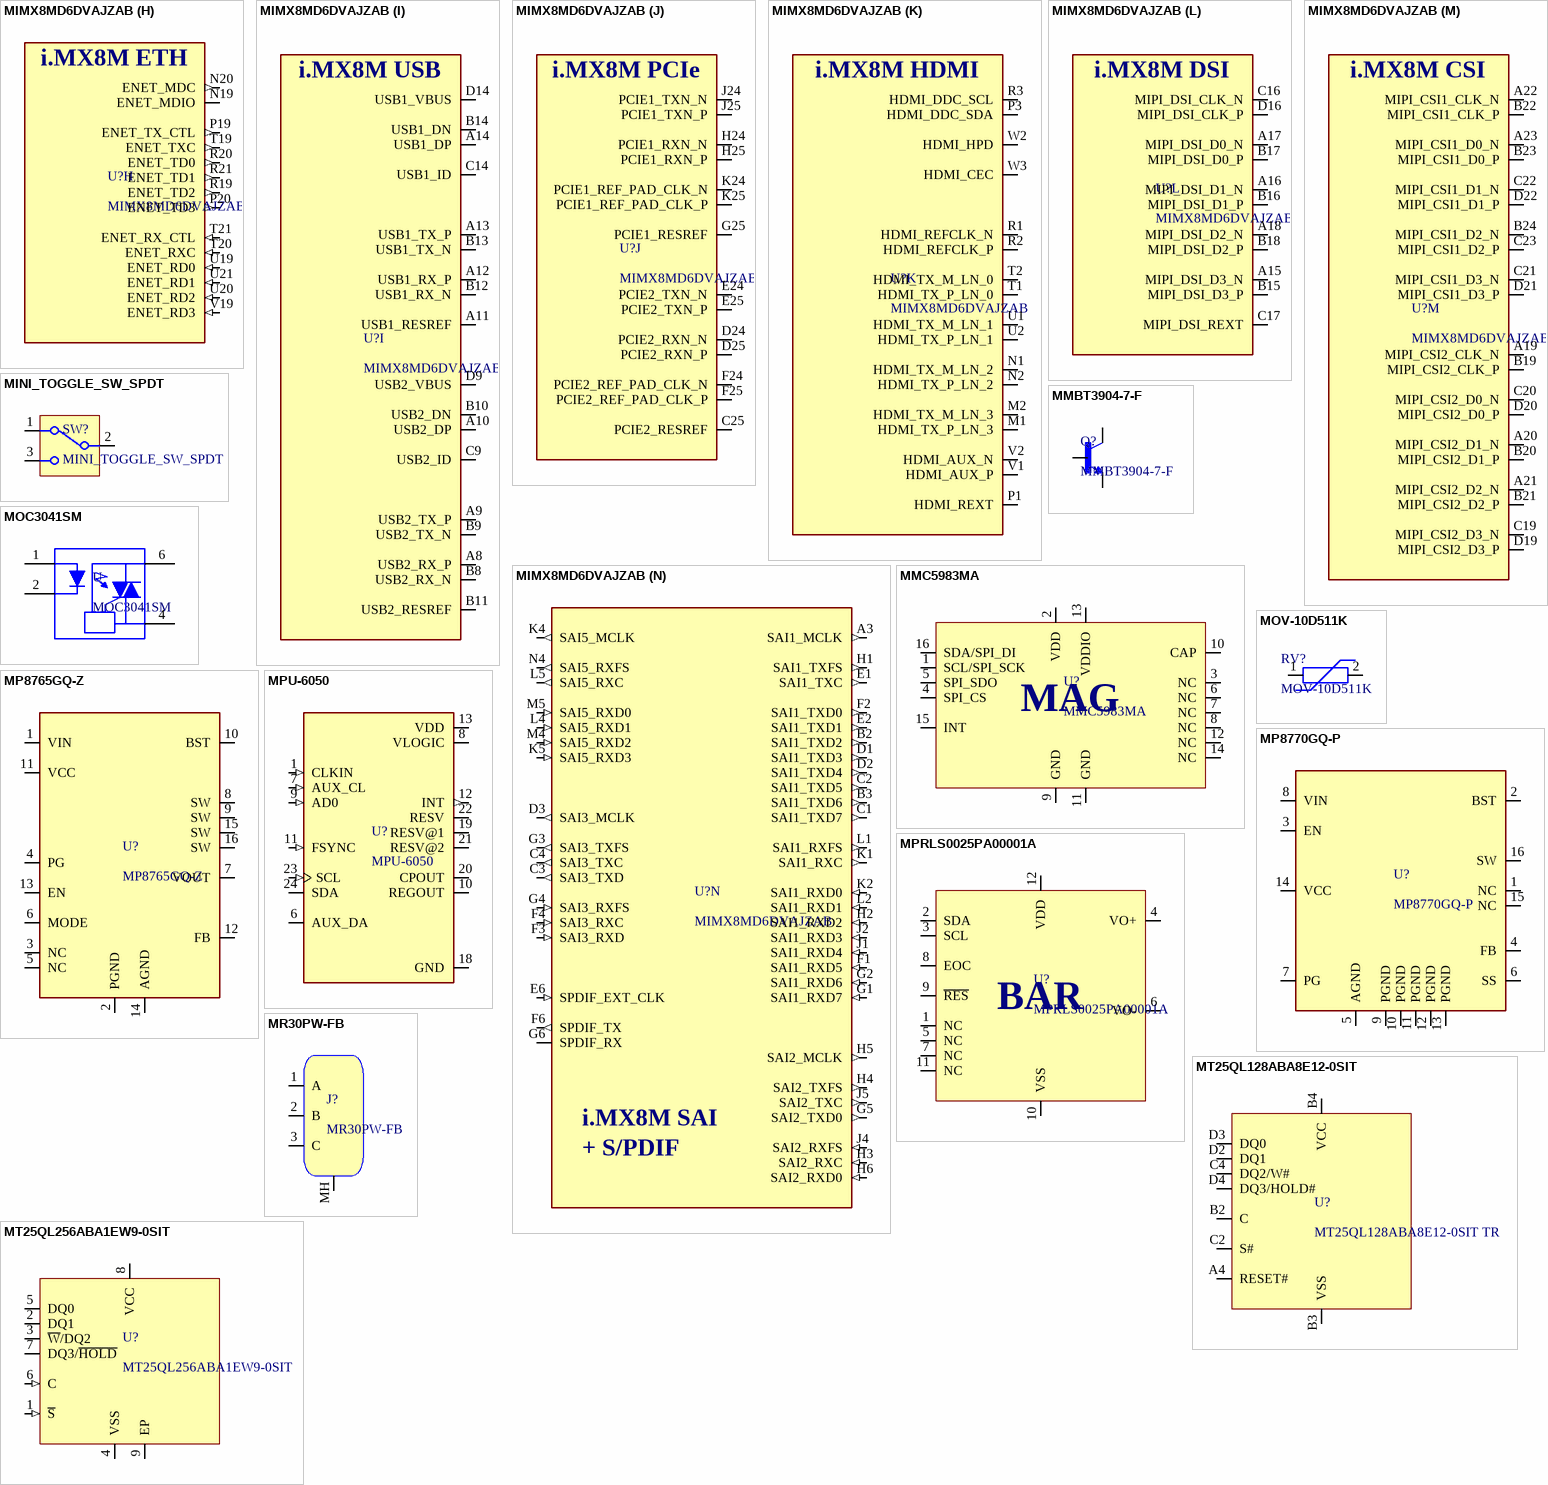
[diagram p19: symbols MIMX8MD6DVAJZAB to MT25QL256ABA1EW9-0SIT]